# Altium schematic symbol library 封装库.SchLib: 194 symbols (part 2 of 3)
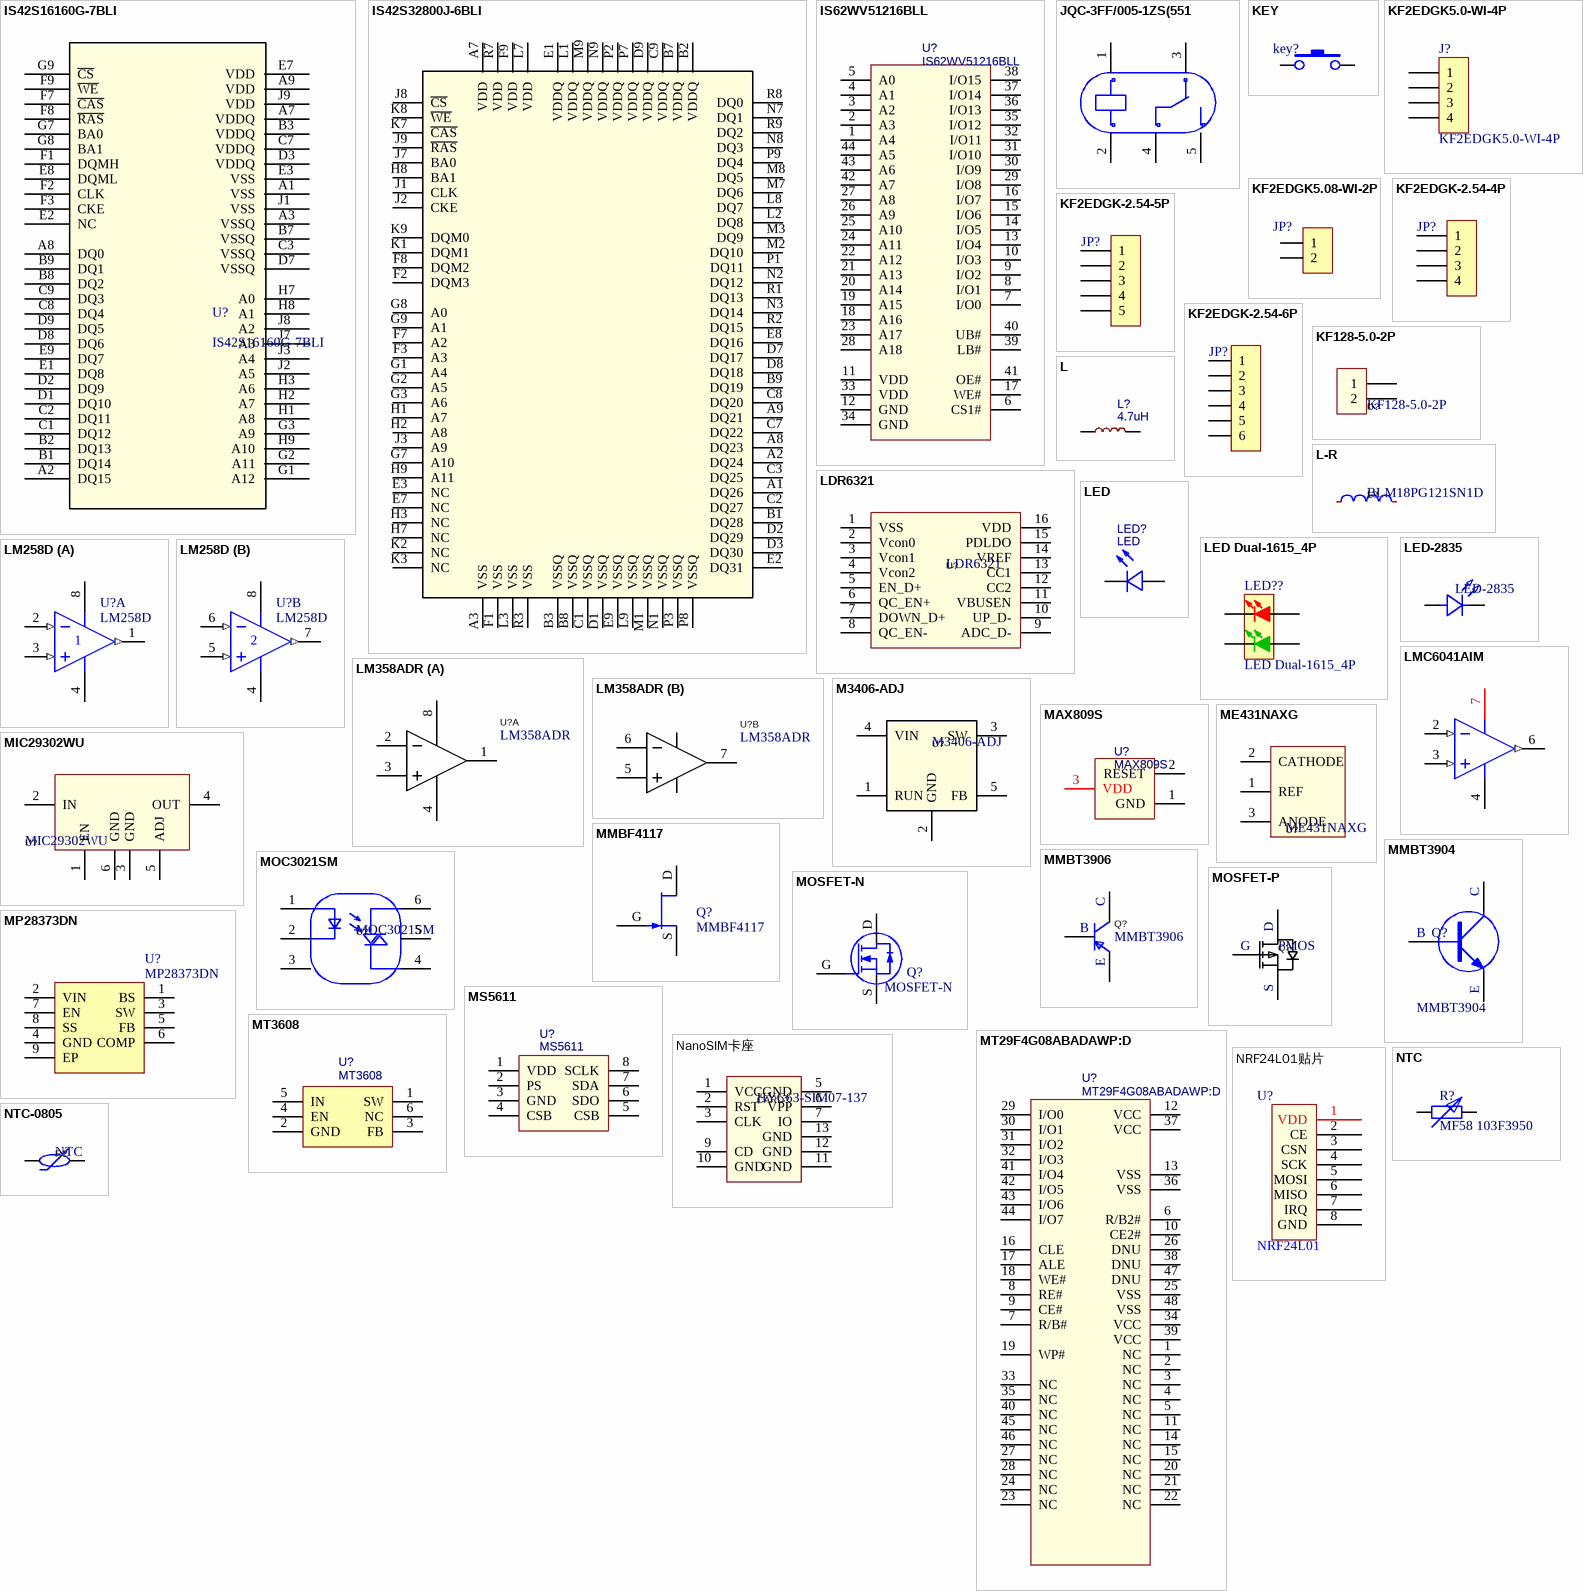
[diagram p14: symbols IS42S16160G-7BLI to NTC-0805]

## ME431NAXG
designator U?
电压基准芯片; Manufacturer: MICRONE(南京微盟); Add into BOM: yes; Symbol: ME431NAXG; Device: ME431NAXG; LCSC Part Name: ME431NAXG; Supplier Part: C427585; Manufacturer Part: ME431NAXG; Supplier Footprint: SOT-23; JLCPCB Part Class: Extended Part; Datasheet: https://atta.szlcsc.com/upload/public/pdf/source/20210812/77A2680EAEE2BD3F215F0BDBA8F6FF99.pdf; Supplier: LCSC; Convert to PCB: yes
footprint ME431AXG
pins: 1 REF, 2 CATHODE, 3 ANODE

## MIC29302WU
designator U?
Manufacturer: UMW(友台半导体); Symbol: MIC29302WU_C2995533; Add into BOM: yes; Name: MIC29302WU; Device: MIC29302WU; LCSC Part Name: 3A Fast-Response LDO Regulator; Supplier Part: C2995533; Manufacturer Part: MIC29302WU; Supplier Footprint: TO-263; JLCPCB Part Class: Extended Part; Datasheet: https://atta.szlcsc.com/upload/public/pdf/source/20220414/64A379364ACD2069C59BD188E91B8798.pdf; Supplier: LCSC; Convert to PCB: yes
footprint MIC29302WU
pins: 1 EN, 2 IN, 3 GND, 4 OUT, 5 ADJ, 6 GND

## MMBF4117
designator Q?
N-Channel JFET; Published: 8-Jun-2000; LatestRevisionDate: 17-Jul-2002; LatestRevisionNote: Re-released for DXP Platform.; PackageReference: TO-254-AA; Publisher: Altium Limited; Code_JEDEC: TO-254-AA
footprint MMBF4117- SOT-23
pins: 1 S, 2 D, 3 G

## MMBT3904
designator Q?
footprint MMBT3904
pins: 1 B, 2 E, 3 C

## MMBT3906
designator Q?
footprint MMBT3906-SOT-23
pins: 1 B, 2 E, 3 C

## MOC3021SM
designator U?
UMW MOC3021SM; Symbol: MOC3021SM_C3014298; Designer: U?; Device: MOC3021SM_C3014298
footprint MOC3021SM
pins: 1 AN, 2 CAT, 3 NC, 4 TERMINAL, 5 SUBSTRATE, 6 TERMINAL

## MOSFET-N
designator Q?
N-Channel MOSFET; Published: 8-Jun-2000; LatestRevisionDate: 17-Jul-2002; LatestRevisionNote: Re-released for DXP Platform.; PackageVersion: 1995/1996; PackageReference: E3; Publisher: Altium Limited
footprint MOSFET-N
pins: D, G, S

## MOSFET-P
designator Q?, comment PMOS
Manufacturer: DIODES(美台); Name: DMP4015SK3-13; Add into BOM: yes; Type: P沟道; Drain Source Voltage (Vdss): 40V; Continuous Drain Current (Id): 14A; Power Dissipation (Pd): 3.5W; Drain Source On Resistance (RDS(on)@Vgs,Id): 11mΩ@10V,9.8A; Gate Threshold Voltage (Vgs(th)@Id): 2.5V@250uA; Total Gate Charge (Qg@Vgs): 47.5nC@5V; Input Capacitance (Ciss@Vds): 4.234nF@20V; Symbol: DMP4015SK3-13; Device: DMP4015SK3-13; LCSC Part Name: P沟道 耐压:40V 电流:14A; Supplier Part: C513222; Manufacturer Part: DMP4015SK3-13; Supplier Footprint: TO-252; JLCPCB Part Class: Extended Part; Datasheet: https://atta.szlcsc.com/upload/public/pdf/source/20200421/C513222_5861831A60C6638F66EF28C3DABB6FAF.pdf; Supplier: LCSC; Convert to PCB: yes; Operating Temperature: -55℃~+150℃@(Tj)
footprint MOSFET-P
pins: 1 G, 2 D, 3 S

## MP28373DN
designator U?
VIN:0~28V,VOUT:ADJ,3A
footprint MP28373dn (SOIC, 8-Leads, Body 4.90x3.90mm, Pitch 1.27mm, Thermal Pad 3.45x2.56mm, IPC Low Density)
pins: 1 BS, 2 VIN, 3 SW, 4 GND, 5 FB, 6 COMP, 7 EN, 8 SS, 9 EP

## MS5611
designator U?
BOM_Manufacturer: 华宇创; BOM_Manufacturer Part: 2343U-205CNG1MNT01; Contributor: LCSC; BOM_Supplier: LCSC; BOM_Supplier Part: C350283; BOM_JLCPCB Part Class: Extended Part; spicePre: U; spiceSymbolName: 2343U-205CNG1MNT01
footprint MS5611
pins: 1 VDD, 2 PS, 3 GND, 4 CSB, 5 CSB, 6 SDO, 7 SDA, 8 SCLK

## MT29F4G08ABADAWP:D
designator U?
BOM_Manufacturer: Micron Tech; Contributor: LCSC; BOM_Supplier: LCSC; BOM_Supplier Part: C78135; BOM_Manufacturer Part: MT29F4G08ABADAWP:D; BOM_JLCPCB Part Class: Extended Part; spicePre: U; spiceSymbolName: MT29F4G08ABADAWP:D
footprint MT29F4G08ABADAWP:D
pins: 1 NC, 2 NC, 3 NC, 4 NC, 5 NC, 6 R/B2#, 7 R/B#, 8 RE#, 9 CE#, 10 CE2#, 11 NC, 12 VCC, 13 VSS, 14 NC, 15 NC, 16 CLE, 17 ALE, 18 WE#, 19 WP#, 20 NC, 21 NC, 22 NC, 23 NC, 24 NC, 25 VSS, 26 DNU, 27 NC, 28 NC, 29 I/O0, 30 I/O1, 31 I/O2, 32 I/O3, 33 NC, 34 VCC, 35 NC, 36 VSS, 37 VCC, 38 DNU, 39 VCC, 40 NC, 41 I/O4, 42 I/O5, 43 I/O6, 44 I/O7, 45 NC, 46 NC, 47 DNU, 48 VSS

## MT3608
designator U?
BOM_Manufacturer: AEROSEMI; BOM_Supplier: LCSC; BOM_Manufacturer Part: MT3608; BOM_Supplier Part: C84817; BOM_JLCPCB Part Class: Extended Part; spicePre: U; spiceSymbolName: MT3608
footprint SOT-23-6 (SOT-23, 6-Leads, Body 2.90x1.60mm, Pitch 0.95mm, IPC High Density)
pins: 1 SW, 2 GND, 3 FB, 4 EN, 5 IN, 6 NC

## NanoSIM卡座
designator CARD?, comment HYC63-SIM07-137
自弹式 NanoSIM卡 卡座 带CD PIN 带柱; Manufacturer: 华宇创; Add into BOM: yes; Body Height (Max): 1.25mm; Name: HYC63-SIM07-137; Symbol: HYC63-SIM07-137; Device: HYC63-SIM07-137; LCSC Part Name: 自弹式 NanoSIM卡 卡座 带CD PIN 带柱; Supplier Part: C645507; Manufacturer Part: HYC63-SIM07-137; Supplier Footprint: SMD; JLCPCB Part Class: Extended Part; Datasheet: https://atta.szlcsc.com/upload/public/pdf/source/20200616/C645507_89E3671A4105357B007331596DCB72F5.pdf; Supplier: LCSC; Convert to PCB: yes; Card Connection Mode: 自弹式; Card Type: NanoSIM卡; Connector Type: 卡座; Contact Material: -; Contact Plating: -; Operating Temperature Range: -20℃~+60℃
footprint NANO-SIM-SMD_HYC63-SIM07-137
pins: 1 VCC, 2 RST, 3 CLK, 5 GND, 6 VPP, 7 IO, 9 CD, 10 GND, 11 GND, 12 GND, 13 GND

## NRF24L01贴片
designator U?, comment NRF24L01
footprint NRF24L01贴片_飞机用
pins: 1 VDD, 2 CE, 3 CSN, 4 SCK, 5 MOSI, 6 MISO, 7 IRQ, 8 GND

## NTC
designator R?, comment MF58 103F3950
阻值(25℃)：10kΩ 电阻精度：±1% B值精度：±1% B值(25℃/50℃)：3950K 功率：50mW 工作温度：-55℃~+250℃ 玻壳测温型; BOM名称: 贴片电阻; 联系卖家，免费查找封装: 唯一出售店铺网址https://shop463601444.taobao.com
footprint 1206-R
footprint 2512-R (1W贴片电阻)
pins: 1, 2

## NTC-0805
designator R?, comment NTC
阻值(25℃)：10kΩ 电阻精度：±1% B值精度：±1% B值(25℃/50℃)：3950K 功率：200mW 最大稳态电流(25℃)：440uA 工作温度：-55℃~+125℃
footprint 0805-R
pins: 1, 2

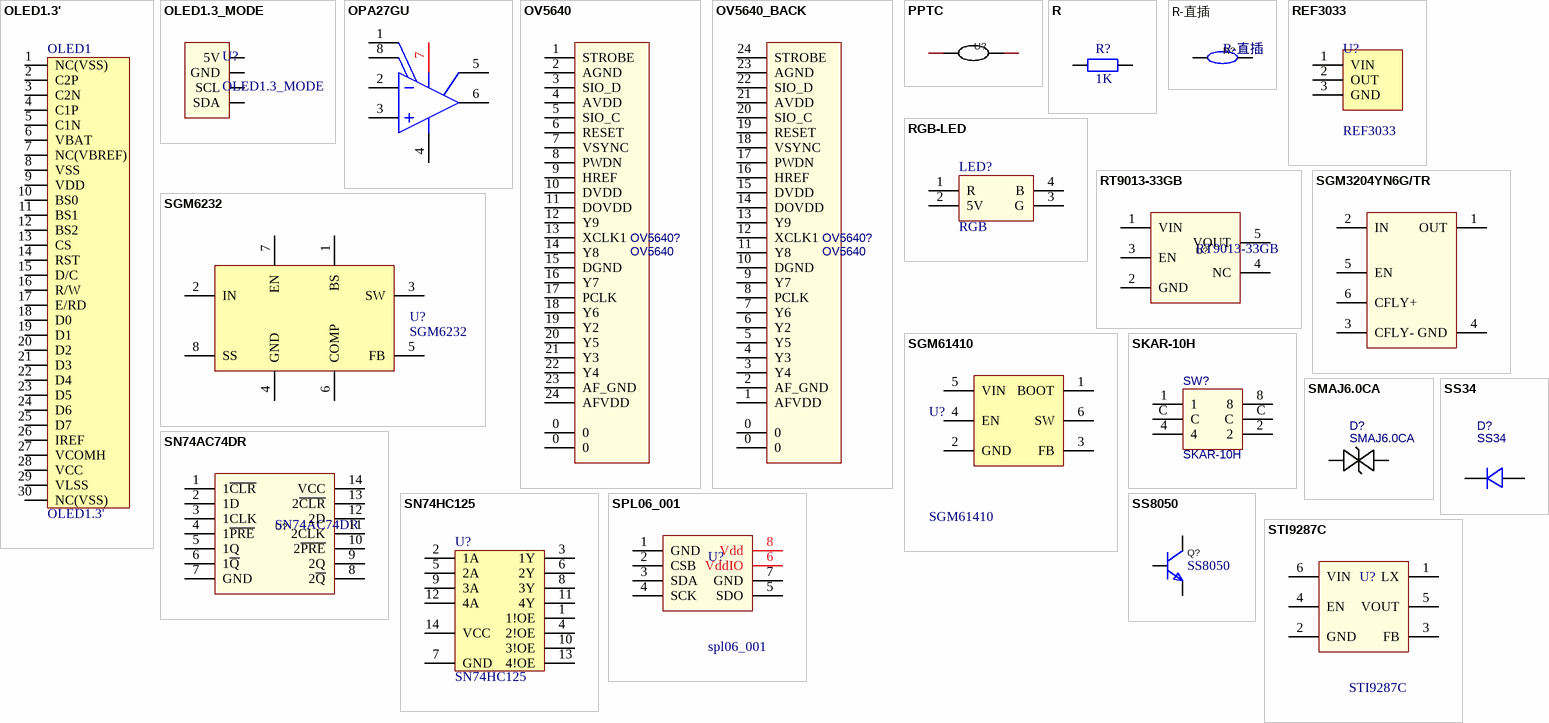
[diagram p5: symbols OLED1.3' to STI9287C]

## OLED1.3'
designator OLED1
footprint OLED_1.3
pins: 1 NC(VSS), 2 C2P, 3 C2N, 4 C1P, 5 C1N, 6 VBAT, 7 NC(VBREF), 8 VSS, 9 VDD, 10 BS0, 11 BS1, 12 BS2, 13 CS, 14 RST, 15 D/C, 16 R/W, 17 E/RD, 18 D0, 19 D1, 20 D2, 21 D3, 22 D4, 23 D5, 24 D6, 25 D7, 26 IREF, 27 VCOMH, 28 VCC, 29 VLSS, 30 NC(VSS)

## OLED1.3_MODE
designator U?
footprint OLED1.3_MODE
pins: 1 5V, 2 GND, 3 SCL, 4 SDA

## OPA27GU
designator U?  (value not drawn)
Manufacturer: TI(德州仪器); Add into BOM: yes; Name: OPA27GU; Symbol: OPA27GU; Device: OPA27GU; LCSC Part Name: OPA27GU; Supplier Part: C1346121; Manufacturer Part: OPA27GU; Supplier Footprint: SOIC-8; JLCPCB Part Class: Extended Part; Datasheet: https://atta.szlcsc.com/upload/public/pdf/source/20230221/3F966B5751EE9C205D67DE3328BF38DF.pdf; Supplier: LCSC; Convert to PCB: yes
footprint OPA27GU-SOP-8 (SOIC, 8-Leads, Body 4.91x3.90mm, Pitch 1.27mm, IPC Medium Density)
pins: 1 Offset Trim, 2 IN-, 3 IN+, 4 -VCC, 5 NC, 6 OUT, 7 +VCC, 8 Offset Trim

## OV5640
designator OV5640?
BOM_Manufacturer: Shenzhen Cankemeng; Contributor: LCSC; BOM_Supplier: LCSC; BOM_Supplier Part: C132514; BOM_Manufacturer Part: -; BOM_JLCPCB Part Class: Extended Part; spicePre: F; spiceSymbolName: FPC0.5-24P
footprint FPC-SMD_P0.50-24P_XJ-FGS
pins: 0, 0, 1 STROBE, 2 AGND, 3 SIO_D, 4 AVDD, 5 SIO_C, 6 RESET, 7 VSYNC, 8 PWDN, 9 HREF, 10 DVDD, 11 DOVDD, 12 Y9, 13 XCLK1, 14 Y8, 15 DGND, 16 Y7, 17 PCLK, 18 Y6, 19 Y2, 20 Y5, 21 Y3, 22 Y4, 23 AF_GND, 24 AFVDD

## OV5640_BACK
designator OV5640?, comment OV5640
BOM_Manufacturer: Shenzhen Cankemeng; Contributor: LCSC; BOM_Supplier: LCSC; BOM_Supplier Part: C132514; BOM_Manufacturer Part: -; BOM_JLCPCB Part Class: Extended Part; spicePre: F; spiceSymbolName: FPC0.5-24P
footprint FPC-SMD_P0.50-24P_XJ-FGS
pins: 0, 0, 1 AFVDD, 2 AF_GND, 3 Y4, 4 Y3, 5 Y5, 6 Y2, 7 Y6, 8 PCLK, 9 Y7, 10 DGND, 11 Y8, 12 XCLK1, 13 Y9, 14 DOVDD, 15 DVDD, 16 HREF, 17 PWDN, 18 VSYNC, 19 RESET, 20 SIO_C, 21 AVDD, 22 SIO_D, 23 AGND, 24 STROBE

## PPTC
designator U?  (value not drawn)
Manufacturer: BOURNS; Name: MF-LSMF260X-2; Add into BOM: yes; Operating Voltage (Max): 24V; Current Rating (Max): 20A; Hold Current: 2.6A; Trip Current: 5.2A; Resistance - Initial (Ri) (Min): 75mΩ; Resistance - Post Trip (R1) (Max): 20mΩ; Maximum Time to Trip: 5s; Symbol: MF-LSMF260X-2; Device: MF-LSMF260X-2; LCSC Part Name: MF-LSMF260X-2; Supplier Part: C913192; Manufacturer Part: MF-LSMF260X-2; Supplier Footprint: SMD2920; JLCPCB Part Class: Extended Part; Supplier: LCSC; Convert to PCB: yes; Operating Temperature: -40℃~+85℃
footprint F2920
pins: 1, 2

## R
designator R?, comment 1K
贴片电阻; 联系卖家，免费查找封装: 唯一出售店铺网址https://shop463601444.taobao.com; BOM名称: 贴片电阻
footprint 0603-R
footprint 0805-R
footprint 1206-R
footprint 2512-R (1W贴片电阻)
footprint 0402-R (Chip Resistor, 2-Leads, Body 1.00x0.50mm, IPC Medium Density)
pins: 1, 2

## R-直插
designator R?
Symbol: MFR1WSFTE52-1K; Designer: U?; Device: MFR1WSFTE52-1K
footprint R-直插
pins: 1, 2

## REF3033
designator U?
footprint REF3033
pins: 1 VIN, 2 OUT, 3 GND

## RGB-LED
designator LED?, comment RGB
footprint RGB-LED
pins: 1 R, 2 5V, 3 G, 4 B

## RT9013-33GB
designator U?
Manufacturer: RICHTEK(立锜); Add into BOM: yes; Output Type: 固定; Output Polarity: 正; Number of Outputs: 1; Maximum Input Voltage: 5.5V; Output Voltage: 3.3V; Dropout Voltage: 400mV@(500mA); Quiescent Current (Ground Current): 50uA; Output Current: 500mA; Power Supply Rejection Ratio (PSRR): 50dB@(10kHz); Name: RT9013-33GB; Symbol: RT9013-33GB; Device: RT9013-33GB; LCSC Part Name: 输入5.5V 输出3.3V 500mA; Supplier Part: C47773; Manufacturer Part: RT9013-33GB; Supplier Footprint: SOT-23-5; JLCPCB Part Class: Extended Part; Datasheet: https://atta.szlcsc.com/upload/public/pdf/source/20150504/1457707282459.pdf; Supplier: LCSC; Convert to PCB: yes; Noise: -; Feature: -; Operating Temperature: -40℃~+85℃
footprint RT9013-33GB-SOT-23-5 (SOT23, 5-Leads, Body 2.9x1.6mm, Pitch 0.95mm, IPC Medium Density)
pins: 1 VIN, 2 GND, 3 EN, 4 NC, 5 VOUT

## SGM3204YN6G/TR
designator U?  (value not drawn)
Manufacturer: SGMICRO(圣邦微); Add into BOM: yes; Voltage - Output (Min/Fixed): -1.4V; Voltage - Output (Max): -5.5V; Current - Output: Up to 200mA; Frequency - Switching: 950kHz; Output Type: Adjustable; Voltage - Input (Min): 1.4V; Voltage - Input (Max): 5.5V; Function: Charge Pump; Output Configuration: Negative; Name: SGM3204YN6G/TR; Symbol: SGM3204YN6G/TR; Device: SGM3204YN6G/TR; LCSC Part Name: SGM3204YN6G/TR; Supplier Part: C194031; Manufacturer Part: SGM3204YN6G/TR; Supplier Footprint: SOT-23-6; JLCPCB Part Class: Extended Part; Datasheet: https://atta.szlcsc.com/upload/public/pdf/source/20180627/C194031_755051E53122D645C36CF727711B963E.pdf; Supplier: LCSC; Convert to PCB: yes
footprint SOT-23-6 (SOT-23, 6-Leads, Body 2.90x1.60mm, Pitch 0.95mm, IPC High Density)
pins: 1 OUT, 2 IN, 3 CFLY-, 4 GND, 5 EN, 6 CFLY+

## SGM6232
designator U?
3A, 28V, 340KHz Synchronous Rectified  Step-Down Converter
footprint SGM6232-SOP-8
pins: 1 BS, 2 IN (power), 3 SW (power), 4 GND (power), 5 FB, 6 COMP, 7 EN, 8 SS

## SGM61410
designator U?
1.2MHz, 600mA, 5-42V 同步整流降压转换器
footprint SGM61410-SOT-23-6 (SOT-23, 6-Leads, Body 2.90x1.60mm, Pitch 0.95mm, IPC High Density)
pins: 1 BOOT, 2 GND (power), 3 FB, 4 EN, 5 VIN (power), 6 SW

## SKAR-10H
designator SW?
旋转编码器; BOM_Manufacturer: 台湾圜达; BOM_Manufacturer Part: RV3AF-16R-V-B; Contributor: LCSC; BOM_Supplier: LCSC; BOM_Supplier Part: C501587; BOM_JLCPCB Part Class: Extended Part; spicePre: S; spiceSymbolName: RV3AF-16R-V-B-C501587
footprint SW-TH_SKAR-10H
pins: 1, 2, 4, 8, C, C

## SMAJ6.0CA
designator D?
SMAJ6.0CA_C698928; BOM_Manufacturer: Yangzhou Yangjie Elec Tech; Contributor: LCSC; BOM_Supplier: LCSC; BOM_Supplier Part: C698928; BOM_Manufacturer Part: SMAJ6.0CA; BOM_JLCPCB Part Class: Extended Part; spicePre: D; spiceSymbolName: SMAJ6.0CA_C698928
footprint ZENER
pins: 1 C, 2 A

## SN74AC74DR
designator U?
Manufacturer: TI(德州仪器); Add into BOM: yes; Number of Channels: 1; Function: 置位和复位; Output Type: 互补型; Clock Frequency: 160MHz; Trigger Type: 上升沿; Maximum Propagation Delay: 6ns@5V,50pF; Sink Current: 24mA; Supply Voltage: 2V~6V; Quiescent Current (Iq): 2uA; Input Capacitance: 3pF; Name: SN74AC74DR; Symbol: SN74AC74DR; Device: SN74AC74DR; LCSC Part Name: IC FF D-TYPE DUAL 1BIT; Supplier Part: C352945; Manufacturer Part: SN74AC74DR; Supplier Footprint: SOIC-14; JLCPCB Part Class: Extended Part; Datasheet: https://atta.szlcsc.com/upload/public/pdf/source/20230221/9FBE165348E9AEEC24AE095F853C1B59.pdf; Supplier: LCSC; Convert to PCB: yes; Series: 74AC; Type: D-型; Source Current: 24mA; Operating Temperature: -40℃~+85℃
footprint SN74AC74DR-SOIC-14
pins: 1 1~{CLR}, 2 1D, 3 1CLK, 4 1~{PRE}, 5 1Q, 6 1~{Q}, 7 GND, 8 2~{Q}, 9 2Q, 10 2~{PRE}, 11 2CLK, 12 2D, 13 2~{CLR}, 14 VCC

## SN74HC125
designator U?
Type: *
footprint TSSOP_E170_P0.65_14
pins: 1 1!OE, 2 1A, 3 1Y, 4 2!OE, 5 2A, 6 2Y, 7 GND, 8 3Y, 9 3A, 10 3!OE, 11 4Y, 12 4A, 13 4!OE, 14 VCC

## SPL06_001
designator U?, comment spl06_001
气压计
footprint SPL06
pins: 1 GND, 2 CSB, 3 SDA, 4 SCK, 5 SDO, 6 VddIO, 7 GND, 8 Vdd

## SS34
designator D?
BOM_Manufacturer: Wuxi ARK Tech Elec; BOM_Manufacturer Part: D-G060306G1-KS2; Contributor: LCSC; BOM_Supplier: LCSC; BOM_Supplier Part: C118334; BOM_JLCPCB Part Class: Extended Part; spicePre: L; spiceSymbolName: D-G060306G1-KS2
footprint SS34-SMA
footprint SS34-SMF
footprint SS34-SOD123 (2.7x1.6X1.1mm（长宽高，不包括引脚） 淘宝ID:黄晶宝石)
pins: 1 +, 2 -

## SS8050
designator Q?
footprint SOT23-3M (SOT23, 3-Leads, Body 2.9x1.3mm, Pitch 0.95mm, Lead Span 2.4mm, IPC Low Density)
pins: 1 B, 2 E, 3 C

## STI9287C
designator U?
PCB Footprint: SOT23-6
footprint SOT-23-6 (SOT-23, 6-Leads, Body 2.90x1.60mm, Pitch 0.95mm, IPC High Density)
pins: 1 LX, 2 GND, 3 FB, 4 EN, 5 VOUT, 6 VIN

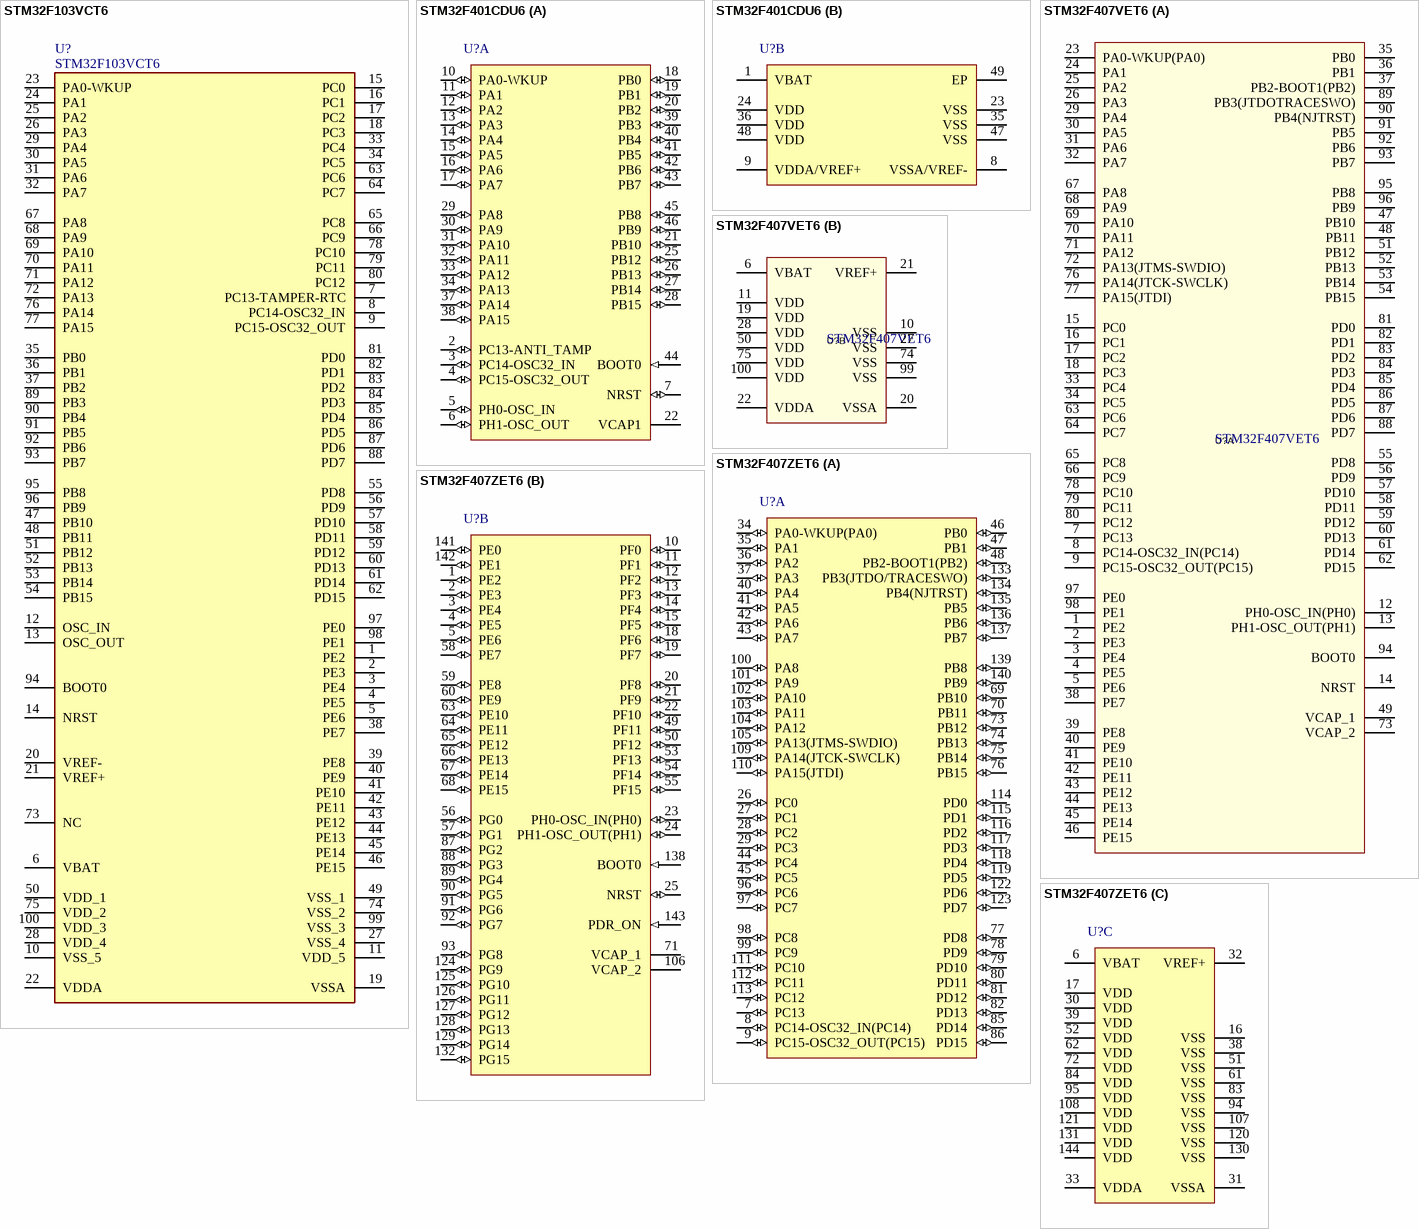
[diagram p6: symbols STM32F103VCT6 to STM32F407ZET6]

## STM32F103VCT6
designator U?
STM32F103VCT6, 32 bit ARM Cortex M3 Microcontroller 72MHz 256 kB Flash, 48 kB RAM, USB CAN I2C 100-Pin LQFP; Manufacturer_Name: STMicroelectronics; Geometry.Height: 1.6mm; Manufacturer_Part_Number: STM32F103VCT6; Mouser Part Number: 511-STM32F103VCT6; Mouser Price/Stock: https://www.mouser.co.uk/ProductDetail/STMicroelectronics/STM32F103VCT6?qs=%252BB84zevwoRDW1rpMEiZMCg%3D%3D; Arrow Part Number: STM32F103VCT6; Arrow Price/Stock: https://www.arrow.com/en/products/stm32f103vct6/stmicroelectronics?region=nac; Datasheet Link: https://www.st.com/resource/en/datasheet/stm32f103rc.pdf
footprint STM32F103VCT6
pins: 1 PE2, 2 PE3, 3 PE4, 4 PE5, 5 PE6, 6 VBAT, 7 PC13-TAMPER-RTC, 8 PC14-OSC32_IN, 9 PC15-OSC32_OUT, 10 VSS_5, 11 VDD_5, 12 OSC_IN, 13 OSC_OUT, 14 NRST, 15 PC0, 16 PC1, 17 PC2, 18 PC3, 19 VSSA, 20 VREF-, 21 VREF+, 22 VDDA, 23 PA0-WKUP, 24 PA1, 25 PA2, 26 PA3, 27 VSS_4, 28 VDD_4, 29 PA4, 30 PA5, 31 PA6, 32 PA7, 33 PC4, 34 PC5, 35 PB0, 36 PB1, 37 PB2, 38 PE7, 39 PE8, 40 PE9, 41 PE10, 42 PE11, 43 PE12, 44 PE13, 45 PE14, 46 PE15, 47 PB10, 48 PB11, 49 VSS_1, 50 VDD_1, 51 PB12, 52 PB13, 53 PB14, 54 PB15, 55 PD8, 56 PD9, 57 PD10, 58 PD11, 59 PD12, 60 PD13, 61 PD14, 62 PD15, 63 PC6, 64 PC7, 65 PC8, 66 PC9, 67 PA8, 68 PA9, 69 PA10, 70 PA11, 71 PA12, 72 PA13, 73 NC, 74 VSS_2, 75 VDD_2, 76 PA14, 77 PA15, 78 PC10, 79 PC11, 80 PC12, 81 PD0, 82 PD1, 83 PD2, 84 PD3, 85 PD4, 86 PD5, 87 PD6, 88 PD7, 89 PB3, 90 PB4, 91 PB5, 92 PB6, 93 PB7, 94 BOOT0, 95 PB8, 96 PB9, 97 PE0, 98 PE1, 99 VSS_3, 100 VDD_3

## STM32F401CDU6
designator U?
ARM Cortex-M4 32-bit MCU+FPU, 105 DMIPS, 256 kB Flash, 64 kB Internal RAM, 36 I/Os, 48-pin UFQFPN, -40 to 85 degC, Tray; Manufacturer: STMicroelectronics; PartNumber: STM32F401CCU6; FLASH Size (Prog) (kB): 256; I/Os (High Current): 36; Internal RAM Size (kB): 64; Operating Frequency(F) (Processor speed) (MHz): 84; Supply Voltage(Vcc) max (V): 3.6; Supply Voltage(Vcc) min (V): 1.8; DatasheetVersion: Rev. 1; PackageVersion: Rev. 1, 04/2013; PackageReference: UFQFPN48; PackageDescription: 48-Pin Ultra Thin Fine Pitch Quad Flat No-Lead, 7 x 7 x 0.6 mm Body, 0.5 mm Pitch, Exposed Pad; Supplier 1: Newark; Supplier Part Number 1: 19X6217; Supplier 2: Mouser; Supplier Part Number 2: 511-STM32F401CCU6; Core: ARM Cortex-M4; Packing: Tray; Mounting Technology: Surface Mount; ComponentLink1Description: Manufacturer URL; ComponentLink1URL: http://www.st.com/web/en/home.html; ComponentLink2Description: Datasheet; ComponentLink2URL: http://www.st.com/st-web-ui/static/active/en/resource/technical/document/data_brief/DM00071938.pdf; ComponentLink3Description: Package Specification; ComponentLink3URL: http://www.st.com/st-web-ui/static/active/en/resource/technical/document/data_brief/DM00071938.pdf
footprint STM32F401CDU6 (QFN, 48-Leads, Body 7.1x7.1mm, Pitch 0.5mm, Thermal Pad 5.6x5.6mm, IPC Medium Density)
part A pins: 2 PC13-ANTI_TAMP (io) "PC13-ANTI_TAMP/TAMP_1", 3 PC14-OSC32_IN (io) "PC14-OSC32_IN/OSC32_IN", 4 PC15-OSC32_OUT (io) "PC15-OSC32_OUT/OSC32_OUT", 5 PH0-OSC_IN (io) "PH0-OSC_IN/OSC_IN", 6 PH1-OSC_OUT (io) "PH1-OSC_OUT/OSC_OUT", 7 NRST (io), 10 PA0-WKUP (io) "PA0-WKUP/USART2_CTS,TIM2_CH1/TIM2_ETR,TIM5_CH1/ADC1_0,WKUP", 11 PA1 (io) "PA1/USART2_RTS,TIM2_CH2,TIM5_CH2/ADC1_1", 12 PA2 (io) "PA2/USART2_TX,TIM2_CH3,TIM5_CH3,TIM9_CH1/ADC1_2", 13 PA3 (io) "PA3/USART2_RX,TIM2_CH4,TIM5_CH4,TIM9_CH2/ADC1_3", 14 PA4 (io) "PA4/SPI1_NSS,SPI3_NSS/I2S3_WS,USART2_CK/ADC1_4", 15 PA5 (io) "PA5/SPI1_SCK,TIM2_CH1/TIM2_ETR/ADC1_5", 16 PA6 (io) "PA6/SPI1_MISO,TIM1_BKIN,TIM3_CH1/ADC1_6", 17 PA7 (io) "PA7/SPI1_MOSI,TIM1_CH1N,TIM3_CH2/ADC1_7", 18 PB0 (io) "PB0/TIM1_CH2N,TIM3_CH3/ADC1_8", 19 PB1 (io) "PB1/TIM1_CH3N,TIM3_CH4/ADC1_9", 20 PB2 (io), 21 PB10 (io) "PB10/SPI2_SCK/I2S2_CK,I2C2_SCL,TIM2_CH3", 22 VCAP1 (power), 25 PB12 (io) "PB12/SPI2_NSS/I2S2_WS,I2C2_SMBAL,TIM1_BKIN", 26 PB13 (io) "PB13/SPI2_SCK/I2S2_CK,TIM1_CH1N", 27 PB14 (io) "PB14/SPI2_MISO,I2S2ext_SD,TIM1_CH2N", 28 PB15 (io) "PB15/SPI2_MOSI/I2S2_SD,TIM1_CH3N,RTC_50Hz", 29 PA8 (io) "PA8/I2C3_SCL,USART1_CK,TIM1_CH1,USB_FS_SOF,MCO_1", 30 PA9 (io) "PA9/I2C3_SMBAL,USART1_TX,TIM1_CH2,USB_FS_VBUS", 31 PA10 (io) "PA10/USART1_RX,TIM1_CH3,USB_FS_ID", 32 PA11 (io) "PA11/USART1_CTS,USART6_TX,TIM1_CH4,USB_FS_DM", 33 PA12 (io) "PA12/USART1_RTS,USART6_RX,TIM1_ETR,USB_FS_DP", 34 PA13 (io) "PA13/JTMS-SWDIO", 37 PA14 (io) "PA14/JTCK-SWCLK", 38 PA15 (io) "PA15/SPI1_NSS,SPI3_NSS/I2S3_WS,TIM2_CH1/TIM2_ETR,JTDI", 39 PB3 (io) "PB3/SPI1_SCK,SPI3_SCK/I2S3_CK,I2C2_SDA,TIM2_CH2,JTDO-SWO", 40 PB4 (io) "PB4/SPI1_MISO,SPI3_MISO,I2S3ext_SD,I2C3_SDA,TIM3_CH1,JTRST", 41 PB5 (io) "PB5/SPI1_MOSI,SPI3_MOSI/I2S3_SD,I2C1_SMBAL,TIM3_CH2", 42 PB6 (io) "PB6/I2C1_SCL,USART1_TX,TIM4_CH1", 43 PB7 (io) "PB7/I2C1_SDA,USART1_RX,TIM4_CH2", 44 BOOT0 (in), 45 PB8 (io) "PB8/I2C1_SCL,TIM4_CH3,TIM10_CH1,SDIO_D4", 46 PB9 (io) "PB9/SPI2_NSS/I2S2_WS,I2C1_SDA,TIM4_CH4,TIM11_CH1,SDIO_D5"
part B pins: 1 VBAT (power), 8 VSSA/VREF- (power), 9 VDDA/VREF+ (power), 23 VSS (power), 24 VDD (power), 35 VSS (power), 36 VDD (power), 47 VSS (power), 48 VDD (power), 49 EP (power)

## STM32F407VET6
designator U?
Manufacturer: ST(意法半导体); Add into BOM: yes; CPU Core: ARM Cortex-M4; CPU Maximum Speed: 168MHz; Operating Voltage Range: 1.8V~3.6V; Program Storage Size: 512KB; Program Memory Type: FLASH; RAM Size: 192KB; GPIO Ports Number: 82; ADC (Bit): 12bit; Universal Serial Bus: 有; Peripheral/Function: DMA；LCD/LED驱动；PWM; tags: STM32; Name: STM32F407VET6; Symbol: STM32F407VET6; Device: STM32F407VET6; LCSC Part Name: STM32F407VET6; Supplier Part: C28730; Manufacturer Part: STM32F407VET6; Supplier Footprint: LQFP-100(14x14); JLCPCB Part Class: Extended Part; Datasheet: https://atta.szlcsc.com/upload/public/pdf/source/20140801/1457707197138.pdf; Supplier: LCSC; Convert to PCB: yes; EEPROM: -; DAC (Bit): 12bit; PWM (Bit): -; Internal Comparator: -; communication protocol: -; Watchdog: 有; Real-Time Clock: -; Infrared Data Association: 有; Low-Voltage Detect: 有; CCP Capture/Compare: -; LCD Module: 有; Secure Digital Input and Output: -; Direct Memory Access: 有; Internal Oscillator: 有; Operating Temperature Range: -40℃~+85℃; image: http://image.lceda.cn/szlcsc/C28730.jpg
footprint STM32F407VET6
part A pins: 1 PE2, 2 PE3, 3 PE4, 4 PE5, 5 PE6, 7 PC13, 8 PC14-OSC32_IN(PC14), 9 PC15-OSC32_OUT(PC15), 12 PH0-OSC_IN(PH0), 13 PH1-OSC_OUT(PH1), 14 NRST, 15 PC0, 16 PC1, 17 PC2, 18 PC3, 23 PA0-WKUP(PA0), 24 PA1, 25 PA2, 26 PA3, 29 PA4, 30 PA5, 31 PA6, 32 PA7, 33 PC4, 34 PC5, 35 PB0, 36 PB1, 37 PB2-BOOT1(PB2), 38 PE7, 39 PE8, 40 PE9, 41 PE10, 42 PE11, 43 PE12, 44 PE13, 45 PE14, 46 PE15, 47 PB10, 48 PB11, 49 VCAP_1, 51 PB12, 52 PB13, 53 PB14, 54 PB15, 55 PD8, 56 PD9, 57 PD10, 58 PD11, 59 PD12, 60 PD13, 61 PD14, 62 PD15, 63 PC6, 64 PC7, 65 PC8, 66 PC9, 67 PA8, 68 PA9, 69 PA10, 70 PA11, 71 PA12, 72 PA13(JTMS-SWDIO), 73 VCAP_2, 76 PA14(JTCK-SWCLK), 77 PA15(JTDI), 78 PC10, 79 PC11, 80 PC12, 81 PD0, 82 PD1, 83 PD2, 84 PD3, 85 PD4, 86 PD5, 87 PD6, 88 PD7, 89 PB3(JTDOTRACESWO), 90 PB4(NJTRST), 91 PB5, 92 PB6, 93 PB7, 94 BOOT0, 95 PB8, 96 PB9, 97 PE0, 98 PE1
part B pins: 6 VBAT, 10 VSS, 11 VDD, 19 VDD, 20 VSSA, 21 VREF+, 22 VDDA, 27 VSS, 28 VDD, 50 VDD, 74 VSS, 75 VDD, 99 VSS, 100 VDD

## STM32F407ZET6
designator U?
ARM Cortex-M4 32-bit MCU+FPU, 210 DMIPS, 512 kB Flash, 192 kB Internal RAM, 114 I/Os, 144-pin LQFP, -40 to 85 degC, Tray; Manufacturer: STMicroelectronics; PartNumber: STM32F407ZET6; D/A Converter: 2x12-bit; FLASH Size (Prog) (kB): 512; I/Os (High Current): 114; Internal RAM Size (kB): 192; Operating Frequency(F) (Processor speed) (MHz): 168; Supply Voltage(Vcc) max (V): 3.6; Supply Voltage(Vcc) min (V): 1.8; DatasheetVersion: Rev. 4; PackageVersion: Rev. 4, 06/2013; PackageReference: LQFP144; PackageDescription: 144-Pin Low Profile Quad Flat Package, 20 x 20 mm Body, 0.5 mm Pitch; Supplier 1: Digi-Key; Supplier Part Number 1: 497-11903-ND; Supplier 2: Farnell; Supplier Part Number 2: 2215229; Supplier 3: Newark; Supplier Part Number 3: 46W2203; Supplier 4: Newark; Supplier Part Number 4: 87T3795; Supplier 5: Mouser; Supplier Part Number 5: 511-STM32F407ZET6; Core: ARM Cortex-M4; Packing: Tray; Mounting Technology: Surface Mount; ComponentLink1Description: Manufacturer URL; ComponentLink1URL: http://www.st.com/web/en/home.html; ComponentLink2Description: Datasheet; ComponentLink2URL: http://www.st.com/st-web-ui/static/active/en/resource/technical/document/datasheet/DM00037051.pdf; ComponentLink3Description: Package Specification; ComponentLink3URL: http://www.st.com/st-web-ui/static/active/en/resource/technical/document/datasheet/DM00037051.pdf
footprint STM-LQFP144_N (Thin QFP, 144-Leads, Body 20x20mm, Pitch 0.5mm, IPC Medium Density)
part A pins: 7 PC13 (io) "PC13/EVENTOUT/RTC_OUT,RTC_TAMP1,RTC_TS", 8 PC14-OSC32_IN(PC14) (io) "PC14-OSC32_IN(PC14)/EVENTOUT/OSC32_IN", 9 PC15-OSC32_OUT(PC15) (io) "PC15-OSC32_OUT(PC15)/EVENTOUT/OSC32_OUT", 26 PC0 (io) "PC0/OTG_HS_ULPI_STP/EVENTOUT/ADC123_IN10", 27 PC1 (io) "PC1/ETH_MDC/EVENTOUT/ADC123_IN11", 28 PC2 (io) "PC2/SPI2_MISO/OTG_HS_ULPI_DIR/ETH_MII_TXD2/I2S2ext_SD/EVENTOUT/ADC123_IN12", 29 PC3 (io) "PC3/SPI2_MOSI/I2S2_SD/OTG_HS_ULPI_NXT/ETH_MII_TX_CLK/EVENTOUT/ADC123_IN13", 34 PA0-WKUP(PA0) (io) "PA0-WKUP(PA0)/USART2_CTS/UART4_TX/ETH_MII_CRS/TIM2_CH1_ETR/TIM5_CH1/TIM8_ETR/EVENTOUT/ADC123_IN0/WKUP", 35 PA1 (io) "PA1/USART2_RTS/UART4_RX/ETH_RMII_REF_CLK/ETH_MII_RX_CLK/TIM5_CH2/TIM2_CH2/EVENTOUT/ADC123_IN1", 36 PA2 (io) "PA2/USART2_TX/TIM5_CH3/TIM9_CH1/TIM2_CH3/ETH_MDIO/EVENTOUT/ADC123_IN2", 37 PA3 (io) "PA3/USART2_RX/TIM5_CH4/TIM9_CH2/TIM2_CH4/OTG_HS_ULPI_D0/ETH_MII_COL/EVENTOUT/ADC123_IN3", 40 PA4 (io) "PA4/SPI1_NSS/SPI3_NSS/USART2_CK/DCMI_HSYNC/OTG_HS_SOF/I2S3_WS/EVENTOUT/ADC12_IN4/DAC_OUT1", 41 PA5 (io) "PA5/SPI1_SCK/OTG_HS_ULPI_CK/TIM2_CH1_ETR/TIM8_CH1N/EVENTOUT/ADC12_IN5/DAC_OUT2", 42 PA6 (io) "PA6/SPI1_MISO/TIM8_BKIN/TIM13_CH1/DCMI_PIXCLK/TIM3_CH1/TIM1_BKIN/EVENTOUT/ADC12_IN6", 43 PA7 (io) "PA7/SPI1_MOSI/TIM8_CH1N/TIM14_CH1/TIM3_CH2/ETH_MII_RX_DV/TIM1_CH1N/ETH_RMII_CRS_DV/EVENTOUT/ADC12_IN7", 44 PC4 (io) "PC4/ETH_RMII_RX_D0/ETH_MII_RX_D0/EVENTOUT/ADC12_IN14", 45 PC5 (io) "PC5/ETH_RMII_RX_D1/ETH_MII_RX_D1/EVENTOUT/ADC12_IN15", 46 PB0 (io) "PB0/TIM3_CH3/TIM8_CH2N/OTG_HS_ULPI_D1/ETH_MII_RXD2/TIM1_CH2N/EVENTOUT/ADC12_IN8", 47 PB1 (io) "PB1/TIM3_CH4/TIM8_CH3N/OTG_HS_ULPI_D2/ETH_MII_RXD3/TIM1_CH3N/EVENTOUT/ADC12_IN9", 48 PB2-BOOT1(PB2) (io) "PB2-BOOT1(PB2)/EVENTOUT", 69 PB10 (io) "PB10/SPI2_SCK/I2S2_CK/I2C2_SCL/USART3_TX/OTG_HS_ULPI_D3/ETH_MII_RX_ER/TIM2_CH3/EVENTOUT", 70 PB11 (io) "PB11/I2C2_SDA/USART3_RX/OTG_HS_ULPI_D4/ETH_RMII_TX_EN/ETH_MII_TX_EN/TIM2_CH4/EVENTOUT", 73 PB12 (io) "PB12/SPI2_NSS/I2S2_WS/I2C2_SMBA/USART3_CK/TIM1_BKIN/CAN2_RX/OTG_HS_ULPI_D5/ETH_RMII_TXD0/ETH_MII_TXD0/OTG_HS_ID/EVENTOUT", 74 PB13 (io) "PB13/SPI2_SCK/I2S2_CK/USART3_CTS/TIM1_CH1N/CAN2_TX/OTG_HS_ULPI_D6/ETH_RMII_TXD1/ETH_MII_TXD1/EVENTOUT/OTG_HS_VBUS", 75 PB14 (io) "PB14/SPI2_MISO/TIM1_CH2N/TIM12_CH1/OTG_HS_DM/USART3_RTS/TIM8_CH2N/I2S2ext_SD/EVENTOUT", 76 PB15 (io) "PB15/SPI2_MOSI/I2S2_SD/TIM1_CH3N/TIM8_CH3N/TIM12_CH2/OTG_HS_DP/EVENTOUT/RTC_REFIN", 77 PD8 (io) "PD8/FSMC_D13/USART3_TX/EVENTOUT", 78 PD9 (io) "PD9/FSMC_D14/USART3_RX/EVENTOUT", 79 PD10 (io) "PD10/FSMC_D15/USART3_CK/EVENTOUT", 80 PD11 (io) "PD11/FSMC_CLE/FSMC_A16/USART3_CTS/EVENTOUT", 81 PD12 (io) "PD12/FSMC_ALE/FSMC_A17/TIM4_CH1/USART3_RTS/EVENTOUT", 82 PD13 (io) "PD13/FSMC_A18/TIM4_CH2/EVENTOUT", 85 PD14 (io) "PD14/FSMC_D0/TIM4_CH3/EVENTOUT", 86 PD15 (io) "PD15/FSMC_D1/TIM4_CH4/EVENTOUT", 96 PC6 (io) "PC6/I2S2_MCK/TIM8_CH1/SDIO_D6/USART6_TX/DCMI_D0/TIM3_CH1/EVENTOUT", 97 PC7 (io) "PC7/I2S3_MCK/TIM8_CH2/SDIO_D7/USART6_RX/DCMI_D1/TIM3_CH2/EVENTOUT", 98 PC8 (io) "PC8/TIM8_CH3/SDIO_D0/TIM3_CH3/USART6_CK/DCMI_D2/EVENTOUT", 99 PC9 (io) "PC9/I2S_CKIN/MCO2/TIM8_CH4/SDIO_D1/I2C3_SDA/DCMI_D3/TIM3_CH4/EVENTOUT", 100 PA8 (io) "PA8/MCO1/USART1_CK/TIM1_CH1/I2C3_SCL/OTG_FS_SOF/EVENTOUT", 101 PA9 (io) "PA9/USART1_TX/TIM1_CH2/I2C3_SMBA/DCMI_D0/EVENTOUT/OTG_FS_VBUS", 102 PA10 (io) "PA10/USART1_RX/TIM1_CH3/OTG_FS_ID/DCMI_D1/EVENTOUT", 103 PA11 (io) "PA11/USART1_CTS/CAN1_RX/TIM1_CH4/OTG_FS_DM/EVENTOUT", 104 PA12 (io) "PA12/USART1_RTS/CAN1_TX/TIM1_ETR/OTG_FS_DP/EVENTOUT", 105 PA13(JTMS-SWDIO) (io) "PA13(JTMS-SWDIO)/JTMS-SWDIO/EVENTOUT", 109 PA14(JTCK-SWCLK) (io) "PA14(JTCK-SWCLK)/JTCK-SWCLK/EVENTOUT", 110 PA15(JTDI) (io) "PA15(JTDI)/JTDI/SPI3_NSS/I2S3_WS/TIM2_CH1_ETR/SPI1_NSS/EVENTOUT", 111 PC10 (io) "PC10/SPI3_SCK/I2S3_CK/UART4_TX/SDIO_D2/DCMI_D8/USART3_TX/EVENTOUT", 112 PC11 (io) "PC11/UART4_RX/SPI3_MISO/SDIO_D3/DCMI_D4/USART3_RX/I2S3ext_SD/EVENTOUT", 113 PC12 (io) "PC12/UART5_TX/SDIO_CK/DCMI_D9/SPI3_MOSI/I2S3_SD/USART3_CK/EVENTOUT", 114 PD0 (io) "PD0/FSMC_D2/CAN1_RX/EVENTOUT", 115 PD1 (io) "PD1/FSMC_D3/CAN1_TX/EVENTOUT", 116 PD2 (io) "PD2/TIM3_ETR/UART5_RX/SDIO_CMD/DCMI_D11/EVENTOUT", 117 PD3 (io) "PD3/FSMC_CLK/USART2_CTS/EVENTOUT", 118 PD4 (io) "PD4/FSMC_NOE/USART2_RTS/EVENTOUT", 119 PD5 (io) "PD5/FSMC_NWE/USART2_TX/EVENTOUT", 122 PD6 (io) "PD6/FSMC_NWAIT/USART2_RX/EVENTOUT", 123 PD7 (io) "PD7/USART2_CK/FSMC_NE1/FSMC_NCE2/EVENTOUT", 133 PB3(JTDO/TRACESWO) (io) "PB3(JTDO/TRACESWO)/JTDO/TRACESWO/SPI3_SCK/I2S3_CK/TIM2_CH2/SPI1_SCK/EVENTOUT", 134 PB4(NJTRST) (io) "PB4(NJTRST)/NJTRST/SPI3_MISO/TIM3_CH1/SPI1_MISO/I2S3ext_SD/EVENTOUT", 135 PB5 (io) "PB5/I2C1_SMBA/CAN2_RX/OTG_HS_ULPI_D7/ETH_PPS_OUT/TIM3_CH2/SPI1_MOSI/SPI3_MOSI/DCMI_D10/I2S3_SD/EVENTOUT", 136 PB6 (io) "PB6/I2C1_SCL/TIM4_CH1/CAN2_TX/DCMI_D5/USART1_TX/EVENTOUT", 137 PB7 (io) "PB7/I2C1_SDA/FSMC_NL/DCMI_VSYNC/USART1_RX/TIM4_CH2/EVENTOUT", 139 PB8 (io) "PB8/TIM4_CH3/SDIO_D4/TIM10_CH1/DCMI_D6/ETH_MII_TXD3/I2C1_SCL/CAN1_RX/EVENTOUT", 140 PB9 (io) "PB9/SPI2_NSS/I2S2_WS/TIM4_CH4/TIM11_CH1/SDIO_D5/DCMI_D7/I2C1_SDA/CAN1_TX/EVENTOUT"
part B pins: 1 PE2 (io) "PE2/TRACECLK/FSMC_A23/ETH_MII_TXD3/EVENTOUT", 2 PE3 (io) "PE3/TRACED0/FSMC_A19/EVENTOUT", 3 PE4 (io) "PE4/TRACED1/FSMC_A20/DCMI_D4/EVENTOUT", 4 PE5 (io) "PE5/TRACED2/FSMC_A21/TIM9_CH1/DCMI_D6/EVENTOUT", 5 PE6 (io) "PE6/TRACED3/FSMC_A22/TIM9_CH2/DCMI_D7/EVENTOUT", 10 PF0 (io) "PF0/FSMC_A0/I2C2_SDA/EVENTOUT", 11 PF1 (io) "PF1/FSMC_A1/I2C2_SCL/EVENTOUT", 12 PF2 (io) "PF2/FSMC_A2/I2C2_SMBA/EVENTOUT", 13 PF3 (io) "PF3/FSMC_A3/EVENTOUT/ADC3_IN9", 14 PF4 (io) "PF4/FSMC_A4/EVENTOUT/ADC3_IN14", 15 PF5 (io) "PF5/FSMC_A5/EVENTOUT/ADC3_IN15", 18 PF6 (io) "PF6/TIM10_CH1/FSMC_NIORD/EVENTOUT/ADC3_IN4", 19 PF7 (io) "PF7/TIM11_CH1/FSMC_NREG/EVENTOUT/ADC3_IN5", 20 PF8 (io) "PF8/TIM13_CH1/FSMC_NIOWR/EVENTOUT/ADC3_IN6", 21 PF9 (io) "PF9/TIM14_CH1/FSMC_CD/EVENTOUT/ADC3_IN7", 22 PF10 (io) "PF10/FSMC_INTR/EVENTOUT/ADC3_IN8", 23 PH0-OSC_IN(PH0) (io) "PH0-OSC_IN(PH0)/EVENTOUT/OSC_IN", 24 PH1-OSC_OUT(PH1) (io) "PH1-OSC_OUT(PH1)/EVENTOUT/OSC_OUT", 25 NRST (io), 49 PF11 (io) "PF11/DCMI_D12/EVENTOUT", 50 PF12 (io) "PF12/FSMC_A6/EVENTOUT", 53 PF13 (io) "PF13/FSMC_A7/EVENTOUT", 54 PF14 (io) "PF14/FSMC_A8/EVENTOUT", 55 PF15 (io) "PF15/FSMC_A9/EVENTOUT", 56 PG0 (io) "PG0/FSMC_A10/EVENTOUT", 57 PG1 (io) "PG1/FSMC_A11/EVENTOUT", 58 PE7 (io) "PE7/FSMC_D4/TIM1_ETR/EVENTOUT", 59 PE8 (io) "PE8/FSMC_D5/TIM1_CH1N/EVENTOUT", 60 PE9 (io) "PE9/FSMC_D6/TIM1_CH1/EVENTOUT", 63 PE10 (io) "PE10/FSMC_D7/TIM1_CH2N/EVENTOUT", 64 PE11 (io) "PE11/FSMC_D8/TIM1_CH2/EVENTOUT", 65 PE12 (io) "PE12/FSMC_D9/TIM1_CH3N/EVENTOUT", 66 PE13 (io) "PE13/FSMC_D10/TIM1_CH3/EVENTOUT", 67 PE14 (io) "PE14/FSMC_D11/TIM1_CH4/EVENTOUT", 68 PE15 (io) "PE15/FSMC_D12/TIM1_BKIN/EVENTOUT", 71 VCAP_1 (power), 87 PG2 (io) "PG2/FSMC_A12/EVENTOUT", 88 PG3 (io) "PG3/FSMC_A13/EVENTOUT", 89 PG4 (io) "PG4/FSMC_A14/EVENTOUT", 90 PG5 (io) "PG5/FSMC_A15/EVENTOUT", 91 PG6 (io) "PG6/FSMC_INT2/EVENTOUT", 92 PG7 (io) "PG7/FSMC_INT3/USART6_CK/EVENTOUT", 93 PG8 (io) "PG8/USART6_RTS/ETH_PPS_OUT/EVENTOUT", 106 VCAP_2 (power), 124 PG9 (io) "PG9/USART6_RX/FSMC_NE2/FSMC_NCE3/EVENTOUT", 125 PG10 (io) "PG10/FSMC_NCE4_1/FSMC_NE3/EVENTOUT", 126 PG11 (io) "PG11/FSMC_NCE4_2/ETH_MII_TX_EN/ETH_RMII_TX_EN/EVENTOUT", 127 PG12 (io) "PG12/FSMC_NE4/USART6_RTS/EVENTOUT", 128 PG13 (io) "PG13/FSMC_A24/USART6_CTS/ETH_MII_TXD0/ETH_RMII_TXD0/EVENTOUT", 129 PG14 (io) "PG14/FSMC_A25/USART6_TX/ETH_MII_TXD1/ETH_RMII_TXD1/EVENTOUT", 132 PG15 (io) "PG15/USART6_CTS/DCMI_D13/EVENTOUT", 138 BOOT0 (in) "BOOT0/VPP", 141 PE0 (io) "PE0/TIM4_ETR/FSMC_NBL0/DCMI_D2/EVENTOUT", 142 PE1 (io) "PE1/FSMC_NBL1/DCMI_D3/EVENTOUT", 143 PDR_ON (in)
part C pins: 6 VBAT (power), 16 VSS (power), 17 VDD (power), 30 VDD (power), 31 VSSA (power), 32 VREF+ (power), 33 VDDA (power), 38 VSS (power), 39 VDD (power), 51 VSS (power), 52 VDD (power), 61 VSS (power), 62 VDD (power), 72 VDD (power), 83 VSS (power), 84 VDD (power), 94 VSS (power), 95 VDD (power), 107 VSS (power), 108 VDD (power), 120 VSS (power), 121 VDD (power), 130 VSS (power), 131 VDD (power), 144 VDD (power)

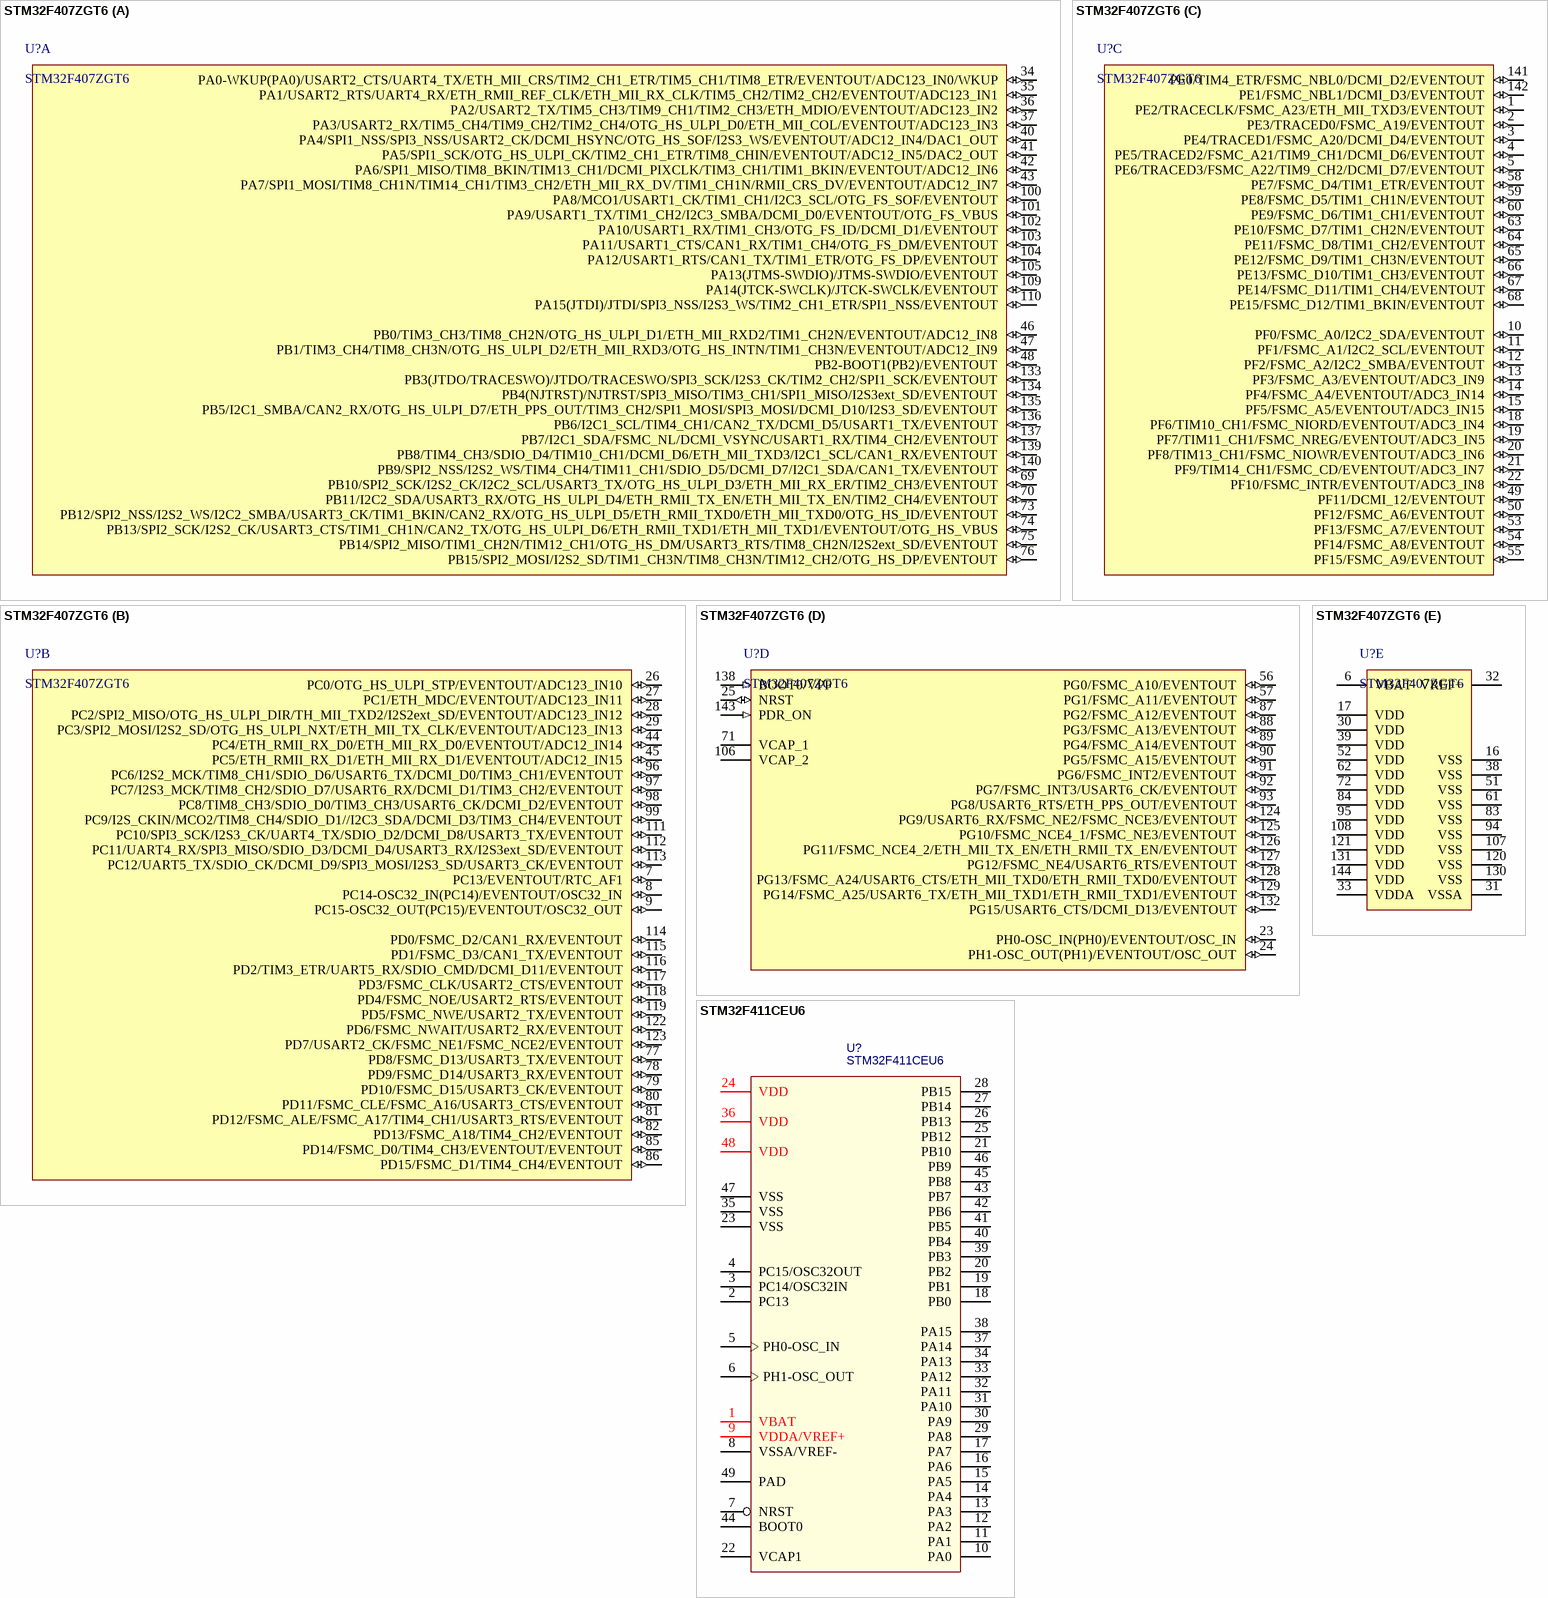
[diagram p7: symbols STM32F407ZGT6 to STM32F411CEU6]

## STM32F407ZGT6
designator U?
ARM Cortex-M4 32b MCU+FPU, 210DMIP, 1024 kB Flash, 192+4 kB RAM, Camera, 114 I/Os, 144-pin LQFP, -40 to +85癈, Tray; Internal RAM: 192kB; Operating Frequency (Processor Speed): 168MHz; A/D Converter: 24x12-bit; D/A Converter: 2x12-bit; 16-bit Timers (IC/OC/PWM): 12x16-bit(24/24/30); 32-bit Timer (IC/OC/PWM): 2x32-bit (8/8/8); Other Timer Functions: 2xWDG, RTC, 24-bit down counter; Serial Interface: 3xSPI/2xI2S/2xI2C/3xUSART(IrDa, ISO7816)/3xUART/2xUSB OTG FS/HS, 2xCAN/Ethernet MAC10/100, SDIO; 联系卖家，免费查找封装: 唯一出售店铺网址https://shop463601444.taobao.com; DatasheetVersion: rev2, Jan-2012; PackageVersion: 2012; PackageReference: TQFP144; PackageDescription: 144-Pin Low Profile Quad Flat Package, 20x20 mm Body, 0.5 mm Pitch; ComponentLink1Description: Manufacturer URL; ComponentLink1URL: http://www.st.com/; ComponentLink2Description: STM32F405/7 Datasheet; ComponentLink2URL: http://www.st.com/internet/com/TECHNICAL_RESOURCES/TECHNICAL_LITERATURE/DATASHEET/DM00037051.pdf; ComponentLink3Description: STM32F4 Web Page; ComponentLink3URL: http://www.st.com/internet/mcu/subclass/1521.jsp
footprint STM32F407ZGT6 (144脚，体宽：20x20mm, 脚距：0.5mm  淘宝ID:黄晶宝石)
part A pins: 34 PA0-WKUP(PA0)/USART2_CTS/UART4_TX/ETH_MII_CRS/TIM2_CH1_ETR/TIM5_CH1/TIM8_ETR/EVENTOUT/ADC123_IN0/WKUP (io), 35 PA1/USART2_RTS/UART4_RX/ETH_RMII_REF_CLK/ETH_MII_RX_CLK/TIM5_CH2/TIM2_CH2/EVENTOUT/ADC123_IN1 (io), 36 PA2/USART2_TX/TIM5_CH3/TIM9_CH1/TIM2_CH3/ETH_MDIO/EVENTOUT/ADC123_IN2 (io), 37 PA3/USART2_RX/TIM5_CH4/TIM9_CH2/TIM2_CH4/OTG_HS_ULPI_D0/ETH_MII_COL/EVENTOUT/ADC123_IN3 (io), 40 PA4/SPI1_NSS/SPI3_NSS/USART2_CK/DCMI_HSYNC/OTG_HS_SOF/I2S3_WS/EVENTOUT/ADC12_IN4/DAC1_OUT (io), 41 PA5/SPI1_SCK/OTG_HS_ULPI_CK/TIM2_CH1_ETR/TIM8_CHIN/EVENTOUT/ADC12_IN5/DAC2_OUT (io), 42 PA6/SPI1_MISO/TIM8_BKIN/TIM13_CH1/DCMI_PIXCLK/TIM3_CH1/TIM1_BKIN/EVENTOUT/ADC12_IN6 (io), 43 PA7/SPI1_MOSI/TIM8_CH1N/TIM14_CH1/TIM3_CH2/ETH_MII_RX_DV/TIM1_CH1N/RMII_CRS_DV/EVENTOUT/ADC12_IN7 (io), 46 PB0/TIM3_CH3/TIM8_CH2N/OTG_HS_ULPI_D1/ETH_MII_RXD2/TIM1_CH2N/EVENTOUT/ADC12_IN8 (io), 47 PB1/TIM3_CH4/TIM8_CH3N/OTG_HS_ULPI_D2/ETH_MII_RXD3/OTG_HS_INTN/TIM1_CH3N/EVENTOUT/ADC12_IN9 (io), 48 PB2-BOOT1(PB2)/EVENTOUT (io), 69 PB10/SPI2_SCK/I2S2_CK/I2C2_SCL/USART3_TX/OTG_HS_ULPI_D3/ETH_MII_RX_ER/TIM2_CH3/EVENTOUT (io), 70 PB11/I2C2_SDA/USART3_RX/OTG_HS_ULPI_D4/ETH_RMII_TX_EN/ETH_MII_TX_EN/TIM2_CH4/EVENTOUT (io), 73 PB12/SPI2_NSS/I2S2_WS/I2C2_SMBA/USART3_CK/TIM1_BKIN/CAN2_RX/OTG_HS_ULPI_D5/ETH_RMII_TXD0/ETH_MII_TXD0/OTG_HS_ID/EVENTOUT (io), 74 PB13/SPI2_SCK/I2S2_CK/USART3_CTS/TIM1_CH1N/CAN2_TX/OTG_HS_ULPI_D6/ETH_RMII_TXD1/ETH_MII_TXD1/EVENTOUT/OTG_HS_VBUS (io), 75 PB14/SPI2_MISO/TIM1_CH2N/TIM12_CH1/OTG_HS_DM/USART3_RTS/TIM8_CH2N/I2S2ext_SD/EVENTOUT (io), 76 PB15/SPI2_MOSI/I2S2_SD/TIM1_CH3N/TIM8_CH3N/TIM12_CH2/OTG_HS_DP/EVENTOUT (io), 100 PA8/MCO1/USART1_CK/TIM1_CH1/I2C3_SCL/OTG_FS_SOF/EVENTOUT (io), 101 PA9/USART1_TX/TIM1_CH2/I2C3_SMBA/DCMI_D0/EVENTOUT/OTG_FS_VBUS (io), 102 PA10/USART1_RX/TIM1_CH3/OTG_FS_ID/DCMI_D1/EVENTOUT (io), 103 PA11/USART1_CTS/CAN1_RX/TIM1_CH4/OTG_FS_DM/EVENTOUT (io), 104 PA12/USART1_RTS/CAN1_TX/TIM1_ETR/OTG_FS_DP/EVENTOUT (io), 105 PA13(JTMS-SWDIO)/JTMS-SWDIO/EVENTOUT (io), 109 PA14(JTCK-SWCLK)/JTCK-SWCLK/EVENTOUT (io), 110 PA15(JTDI)/JTDI/SPI3_NSS/I2S3_WS/TIM2_CH1_ETR/SPI1_NSS/EVENTOUT (io), 133 PB3(JTDO/TRACESWO)/JTDO/TRACESWO/SPI3_SCK/I2S3_CK/TIM2_CH2/SPI1_SCK/EVENTOUT (io), 134 PB4(NJTRST)/NJTRST/SPI3_MISO/TIM3_CH1/SPI1_MISO/I2S3ext_SD/EVENTOUT (io), 135 PB5/I2C1_SMBA/CAN2_RX/OTG_HS_ULPI_D7/ETH_PPS_OUT/TIM3_CH2/SPI1_MOSI/SPI3_MOSI/DCMI_D10/I2S3_SD/EVENTOUT (io), 136 PB6/I2C1_SCL/TIM4_CH1/CAN2_TX/DCMI_D5/USART1_TX/EVENTOUT (io), 137 PB7/I2C1_SDA/FSMC_NL/DCMI_VSYNC/USART1_RX/TIM4_CH2/EVENTOUT (io), 139 PB8/TIM4_CH3/SDIO_D4/TIM10_CH1/DCMI_D6/ETH_MII_TXD3/I2C1_SCL/CAN1_RX/EVENTOUT (io), 140 PB9/SPI2_NSS/I2S2_WS/TIM4_CH4/TIM11_CH1/SDIO_D5/DCMI_D7/I2C1_SDA/CAN1_TX/EVENTOUT (io)
part B pins: 7 PC13/EVENTOUT/RTC_AF1 (io), 8 PC14-OSC32_IN(PC14)/EVENTOUT/OSC32_IN (io), 9 PC15-OSC32_OUT(PC15)/EVENTOUT/OSC32_OUT (io), 26 PC0/OTG_HS_ULPI_STP/EVENTOUT/ADC123_IN10 (io), 27 PC1/ETH_MDC/EVENTOUT/ADC123_IN11 (io), 28 PC2/SPI2_MISO/OTG_HS_ULPI_DIR/TH_MII_TXD2/I2S2ext_SD/EVENTOUT/ADC123_IN12 (io), 29 PC3/SPI2_MOSI/I2S2_SD/OTG_HS_ULPI_NXT/ETH_MII_TX_CLK/EVENTOUT/ADC123_IN13 (io), 44 PC4/ETH_RMII_RX_D0/ETH_MII_RX_D0/EVENTOUT/ADC12_IN14 (io), 45 PC5/ETH_RMII_RX_D1/ETH_MII_RX_D1/EVENTOUT/ADC12_IN15 (io), 77 PD8/FSMC_D13/USART3_TX/EVENTOUT (io), 78 PD9/FSMC_D14/USART3_RX/EVENTOUT (io), 79 PD10/FSMC_D15/USART3_CK/EVENTOUT (io), 80 PD11/FSMC_CLE/FSMC_A16/USART3_CTS/EVENTOUT (io), 81 PD12/FSMC_ALE/FSMC_A17/TIM4_CH1/USART3_RTS/EVENTOUT (io), 82 PD13/FSMC_A18/TIM4_CH2/EVENTOUT (io), 85 PD14/FSMC_D0/TIM4_CH3/EVENTOUT/EVENTOUT (io), 86 PD15/FSMC_D1/TIM4_CH4/EVENTOUT (io), 96 PC6/I2S2_MCK/TIM8_CH1/SDIO_D6/USART6_TX/DCMI_D0/TIM3_CH1/EVENTOUT (io), 97 PC7/I2S3_MCK/TIM8_CH2/SDIO_D7/USART6_RX/DCMI_D1/TIM3_CH2/EVENTOUT (io), 98 PC8/TIM8_CH3/SDIO_D0/TIM3_CH3/USART6_CK/DCMI_D2/EVENTOUT (io), 99 PC9/I2S_CKIN/MCO2/TIM8_CH4/SDIO_D1//I2C3_SDA/DCMI_D3/TIM3_CH4/EVENTOUT (io), 111 PC10/SPI3_SCK/I2S3_CK/UART4_TX/SDIO_D2/DCMI_D8/USART3_TX/EVENTOUT (io), 112 PC11/UART4_RX/SPI3_MISO/SDIO_D3/DCMI_D4/USART3_RX/I2S3ext_SD/EVENTOUT (io), 113 PC12/UART5_TX/SDIO_CK/DCMI_D9/SPI3_MOSI/I2S3_SD/USART3_CK/EVENTOUT (io), 114 PD0/FSMC_D2/CAN1_RX/EVENTOUT (io), 115 PD1/FSMC_D3/CAN1_TX/EVENTOUT (io), 116 PD2/TIM3_ETR/UART5_RX/SDIO_CMD/DCMI_D11/EVENTOUT (io), 117 PD3/FSMC_CLK/USART2_CTS/EVENTOUT (io), 118 PD4/FSMC_NOE/USART2_RTS/EVENTOUT (io), 119 PD5/FSMC_NWE/USART2_TX/EVENTOUT (io), 122 PD6/FSMC_NWAIT/USART2_RX/EVENTOUT (io), 123 PD7/USART2_CK/FSMC_NE1/FSMC_NCE2/EVENTOUT (io)
part C pins: 1 PE2/TRACECLK/FSMC_A23/ETH_MII_TXD3/EVENTOUT (io), 2 PE3/TRACED0/FSMC_A19/EVENTOUT (io), 3 PE4/TRACED1/FSMC_A20/DCMI_D4/EVENTOUT (io), 4 PE5/TRACED2/FSMC_A21/TIM9_CH1/DCMI_D6/EVENTOUT (io), 5 PE6/TRACED3/FSMC_A22/TIM9_CH2/DCMI_D7/EVENTOUT (io), 10 PF0/FSMC_A0/I2C2_SDA/EVENTOUT (io), 11 PF1/FSMC_A1/I2C2_SCL/EVENTOUT (io), 12 PF2/FSMC_A2/I2C2_SMBA/EVENTOUT (io), 13 PF3/FSMC_A3/EVENTOUT/ADC3_IN9 (io), 14 PF4/FSMC_A4/EVENTOUT/ADC3_IN14 (io), 15 PF5/FSMC_A5/EVENTOUT/ADC3_IN15 (io), 18 PF6/TIM10_CH1/FSMC_NIORD/EVENTOUT/ADC3_IN4 (io), 19 PF7/TIM11_CH1/FSMC_NREG/EVENTOUT/ADC3_IN5 (io), 20 PF8/TIM13_CH1/FSMC_NIOWR/EVENTOUT/ADC3_IN6 (io), 21 PF9/TIM14_CH1/FSMC_CD/EVENTOUT/ADC3_IN7 (io), 22 PF10/FSMC_INTR/EVENTOUT/ADC3_IN8 (io), 49 PF11/DCMI_12/EVENTOUT (io), 50 PF12/FSMC_A6/EVENTOUT (io), 53 PF13/FSMC_A7/EVENTOUT (io), 54 PF14/FSMC_A8/EVENTOUT (io), 55 PF15/FSMC_A9/EVENTOUT (io), 58 PE7/FSMC_D4/TIM1_ETR/EVENTOUT (io), 59 PE8/FSMC_D5/TIM1_CH1N/EVENTOUT (io), 60 PE9/FSMC_D6/TIM1_CH1/EVENTOUT (io), 63 PE10/FSMC_D7/TIM1_CH2N/EVENTOUT (io), 64 PE11/FSMC_D8/TIM1_CH2/EVENTOUT (io), 65 PE12/FSMC_D9/TIM1_CH3N/EVENTOUT (io), 66 PE13/FSMC_D10/TIM1_CH3/EVENTOUT (io), 67 PE14/FSMC_D11/TIM1_CH4/EVENTOUT (io), 68 PE15/FSMC_D12/TIM1_BKIN/EVENTOUT (io), 141 PE0/TIM4_ETR/FSMC_NBL0/DCMI_D2/EVENTOUT (io), 142 PE1/FSMC_NBL1/DCMI_D3/EVENTOUT (io)
part D pins: 23 PH0-OSC_IN(PH0)/EVENTOUT/OSC_IN (io), 24 PH1-OSC_OUT(PH1)/EVENTOUT/OSC_OUT (io), 25 NRST (io), 56 PG0/FSMC_A10/EVENTOUT (io), 57 PG1/FSMC_A11/EVENTOUT (io), 71 VCAP_1 (power), 87 PG2/FSMC_A12/EVENTOUT (io), 88 PG3/FSMC_A13/EVENTOUT (io), 89 PG4/FSMC_A14/EVENTOUT (io), 90 PG5/FSMC_A15/EVENTOUT (io), 91 PG6/FSMC_INT2/EVENTOUT (io), 92 PG7/FSMC_INT3/USART6_CK/EVENTOUT (io), 93 PG8/USART6_RTS/ETH_PPS_OUT/EVENTOUT (io), 106 VCAP_2 (power), 124 PG9/USART6_RX/FSMC_NE2/FSMC_NCE3/EVENTOUT (io), 125 PG10/FSMC_NCE4_1/FSMC_NE3/EVENTOUT (io), 126 PG11/FSMC_NCE4_2/ETH_MII_TX_EN/ETH_RMII_TX_EN/EVENTOUT (io), 127 PG12/FSMC_NE4/USART6_RTS/EVENTOUT (io), 128 PG13/FSMC_A24/USART6_CTS/ETH_MII_TXD0/ETH_RMII_TXD0/EVENTOUT (io), 129 PG14/FSMC_A25/USART6_TX/ETH_MII_TXD1/ETH_RMII_TXD1/EVENTOUT (io), 132 PG15/USART6_CTS/DCMI_D13/EVENTOUT (io), 138 BOOT0/VPP (in), 143 PDR_ON (in)
part E pins: 6 VBAT (power), 16 VSS (power), 17 VDD (power), 30 VDD (power), 31 VSSA (power), 32 VREF+ (power), 33 VDDA (power), 38 VSS (power), 39 VDD (power), 51 VSS (power), 52 VDD (power), 61 VSS (power), 62 VDD (power), 72 VDD (power), 83 VSS (power), 84 VDD (power), 94 VSS (power), 95 VDD (power), 107 VSS (power), 108 VDD (power), 120 VSS (power), 121 VDD (power), 130 VSS (power), 131 VDD (power), 144 VDD (power)

## STM32F411CEU6
designator U?
BOM_Manufacturer: STMicroelectronics; BOM_Supplier: LCSC; BOM_Manufacturer Part: STM32F411CEU6; BOM_Supplier Part: C60420; BOM_JLCPCB Part Class: Extended Part; spicePre: U; spiceSymbolName: STM32F411CEU6
footprint STM32F411CEU6
pins: 1 VBAT, 2 PC13, 3 PC14/OSC32IN, 4 PC15/OSC32OUT, 5 PH0-OSC_IN, 6 PH1-OSC_OUT, 7 NRST, 8 VSSA/VREF-, 9 VDDA/VREF+, 10 PA0, 11 PA1, 12 PA2, 13 PA3, 14 PA4, 15 PA5, 16 PA6, 17 PA7, 18 PB0, 19 PB1, 20 PB2, 21 PB10, 22 VCAP1, 23 VSS, 24 VDD, 25 PB12, 26 PB13, 27 PB14, 28 PB15, 29 PA8, 30 PA9, 31 PA10, 32 PA11, 33 PA12, 34 PA13, 35 VSS, 36 VDD, 37 PA14, 38 PA15, 39 PB3, 40 PB4, 41 PB5, 42 PB6, 43 PB7, 44 BOOT0, 45 PB8, 46 PB9, 47 VSS, 48 VDD, 49 PAD

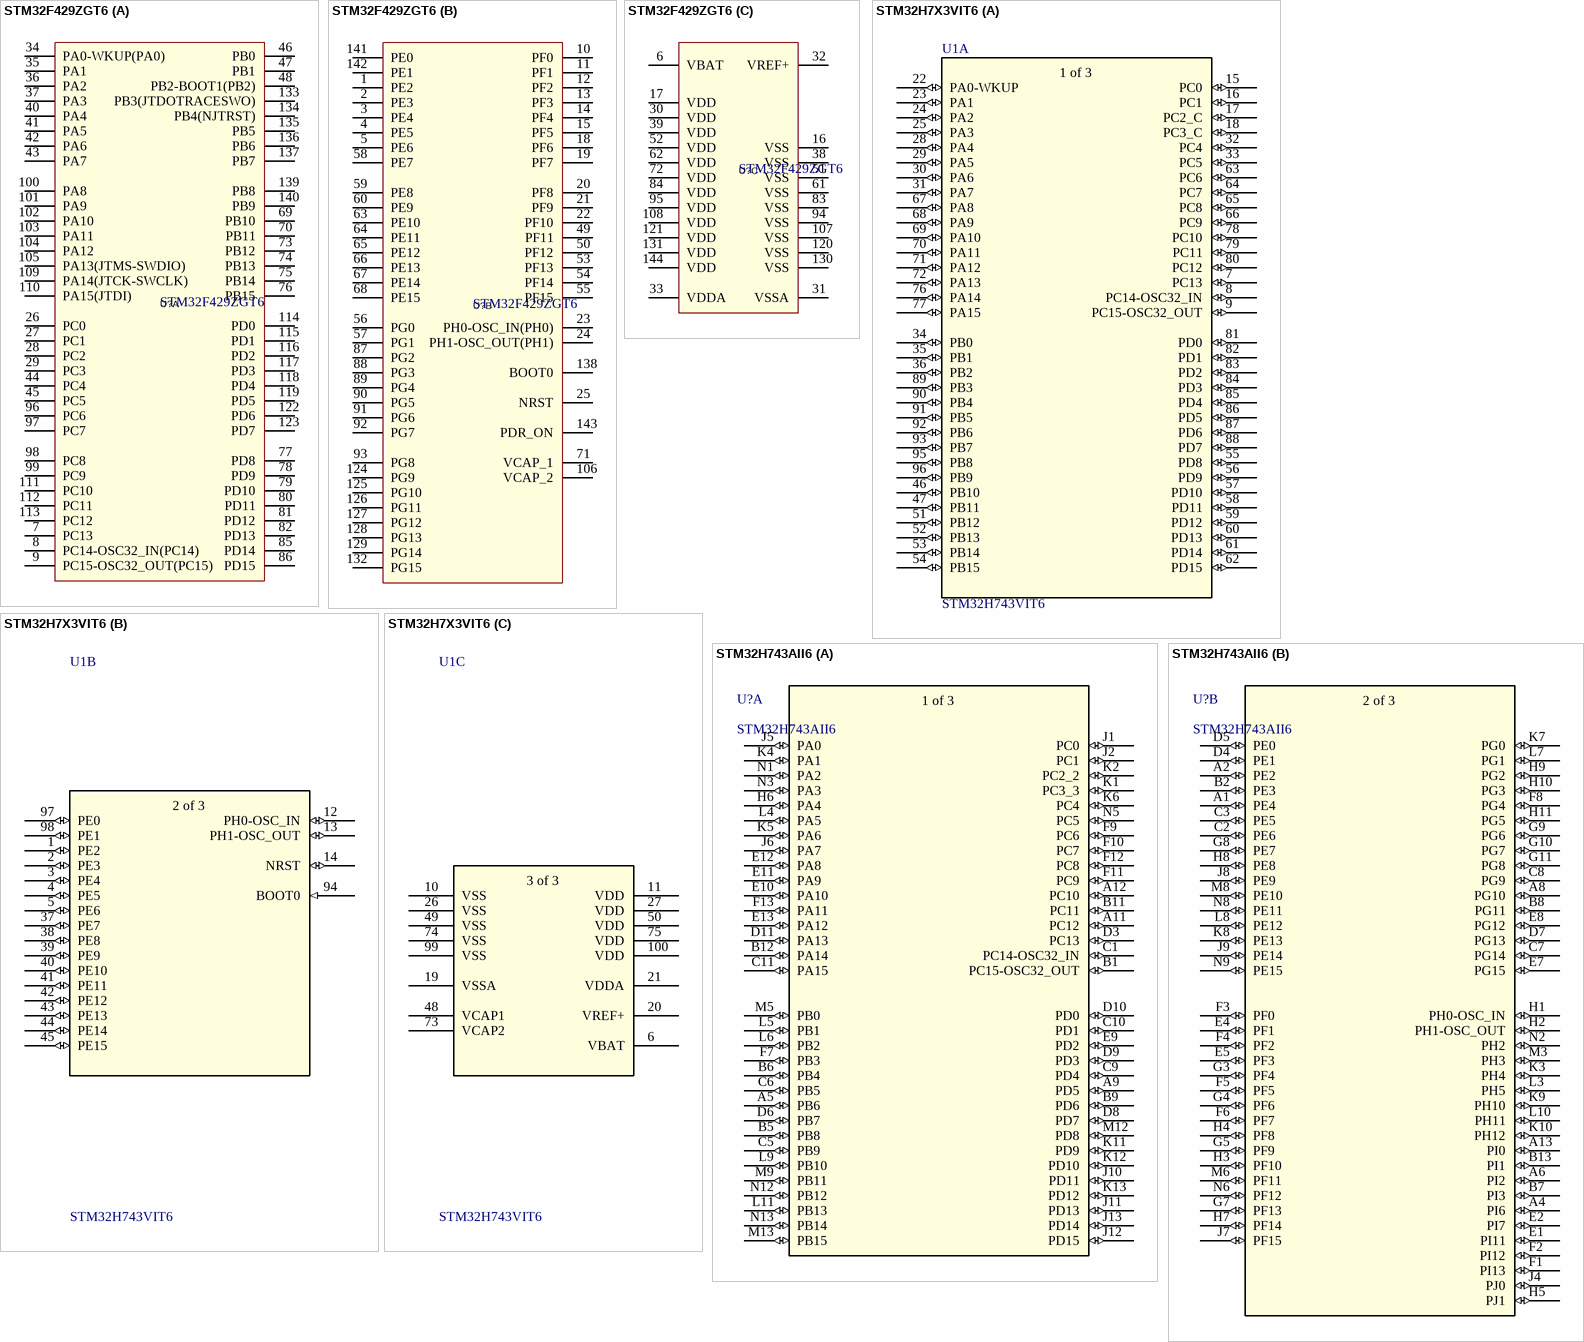
[diagram p8: symbols STM32F429ZGT6 to STM32H743AII6]

## STM32F429ZGT6
designator U?
Manufacturer: ST(意法半导体); Add into BOM: yes; CPU Core: ARM Cortex-M4; CPU Maximum Speed: 180MHz; Operating Voltage Range: 1.8V~3.6V; Program Storage Size: 1MB; GPIO Ports Number: 114; ADC (Bit): 12bit; Universal Serial Bus: 有; tags: STM32; Name: STM32F429ZGT6; Symbol: STM32F429ZGT6; Device: STM32F429ZGT6; LCSC Part Name: STM32F429ZGT6; Supplier Part: C46525; Manufacturer Part: STM32F429ZGT6; Supplier Footprint: LQFP-144(20x20); JLCPCB Part Class: Extended Part; Datasheet: https://atta.szlcsc.com/upload/public/pdf/source/20170102/1483323670635.pdf; Supplier: LCSC; Convert to PCB: yes; Program Memory Type: -; RAM Size: -; EEPROM: -; DAC (Bit): 12bit; PWM (Bit): -; Internal Comparator: -; communication protocol: -; Watchdog: 有; Real-Time Clock: -; Infrared Data Association: 有; Low-Voltage Detect: 有; CCP Capture/Compare: -; LCD Module: 有; Secure Digital Input and Output: -; Direct Memory Access: 有; Internal Oscillator: 有; Operating Temperature Range: -40℃~+85℃; image: http://image.lceda.cn/szlcsc/C46525.jpg
footprint STM32F429-LQFP-144
part A pins: 7 PC13, 8 PC14-OSC32_IN(PC14), 9 PC15-OSC32_OUT(PC15), 26 PC0, 27 PC1, 28 PC2, 29 PC3, 34 PA0-WKUP(PA0), 35 PA1, 36 PA2, 37 PA3, 40 PA4, 41 PA5, 42 PA6, 43 PA7, 44 PC4, 45 PC5, 46 PB0, 47 PB1, 48 PB2-BOOT1(PB2), 69 PB10, 70 PB11, 73 PB12, 74 PB13, 75 PB14, 76 PB15, 77 PD8, 78 PD9, 79 PD10, 80 PD11, 81 PD12, 82 PD13, 85 PD14, 86 PD15 hidden, 86 PD15, 96 PC6, 97 PC7, 98 PC8, 99 PC9, 100 PA8, 101 PA9, 102 PA10, 103 PA11, 104 PA12, 105 PA13(JTMS-SWDIO), 109 PA14(JTCK-SWCLK), 110 PA15(JTDI), 111 PC10, 112 PC11, 113 PC12, 114 PD0, 115 PD1, 116 PD2, 117 PD3, 118 PD4, 119 PD5, 122 PD6, 123 PD7, 133 PB3(JTDOTRACESWO), 134 PB4(NJTRST), 135 PB5, 136 PB6, 137 PB7, 139 PB8, 140 PB9
part B pins: 1 PE2, 2 PE3, 3 PE4, 4 PE5, 5 PE6, 10 PF0, 11 PF1, 12 PF2, 13 PF3, 14 PF4, 15 PF5, 18 PF6, 19 PF7, 20 PF8, 21 PF9, 22 PF10, 23 PH0-OSC_IN(PH0), 24 PH1-OSC_OUT(PH1), 25 NRST, 49 PF11, 50 PF12, 53 PF13, 54 PF14, 55 PF15, 56 PG0, 57 PG1, 58 PE7, 59 PE8, 60 PE9, 63 PE10, 64 PE11, 65 PE12, 66 PE13, 67 PE14, 68 PE15, 71 VCAP_1, 87 PG2, 88 PG3, 89 PG4, 90 PG5, 91 PG6, 92 PG7, 93 PG8, 106 VCAP_2, 124 PG9, 125 PG10, 126 PG11, 127 PG12, 128 PG13, 129 PG14, 132 PG15, 138 BOOT0, 141 PE0, 142 PE1, 143 PDR_ON
part C pins: 6 VBAT, 16 VSS, 17 VDD, 30 VDD, 31 VSSA, 32 VREF+, 33 VDDA, 38 VSS, 39 VDD, 51 VSS, 52 VDD, 61 VSS, 62 VDD, 72 VDD, 83 VSS, 84 VDD, 94 VSS, 95 VDD, 107 VSS, 108 VDD, 120 VSS, 121 VDD, 130 VSS, 131 VDD, 144 VDD

## STM32H7X3VIT6
designator U1, comment STM32H743VIT6
footprint STM-LQFP100_N (Thin QFP, 100-Leads, Body 14x14mm, Pitch 0.5mm, IPC Medium Density)
footprint STM-LQFP100_M (Thin QFP, 100-Leads, Body 14x14mm, Pitch 0.5mm, IPC Medium Density)
footprint STM-LQFP100_L (Thin QFP, 100-Leads, Body 14x14mm, Pitch 0.5mm, IPC High Density)
part A pins: 7 PC13 (io), 8 PC14-OSC32_IN (io), 9 PC15-OSC32_OUT (io), 15 PC0 (io), 16 PC1 (io), 17 PC2_C (io), 18 PC3_C (io), 22 PA0-WKUP (io), 23 PA1 (io), 24 PA2 (io), 25 PA3 (io), 28 PA4 (io), 29 PA5 (io), 30 PA6 (io), 31 PA7 (io), 32 PC4 (io), 33 PC5 (io), 34 PB0 (io), 35 PB1 (io), 36 PB2 (io), 46 PB10 (io), 47 PB11 (io), 51 PB12 (io), 52 PB13 (io), 53 PB14 (io), 54 PB15 (io), 55 PD8 (io), 56 PD9 (io), 57 PD10 (io), 58 PD11 (io), 59 PD12 (io), 60 PD13 (io), 61 PD14 (io), 62 PD15 (io), 63 PC6 (io), 64 PC7 (io), 65 PC8 (io), 66 PC9 (io), 67 PA8 (io), 68 PA9 (io), 69 PA10 (io), 70 PA11 (io), 71 PA12 (io), 72 PA13 (io), 76 PA14 (io), 77 PA15 (io), 78 PC10 (io), 79 PC11 (io), 80 PC12 (io), 81 PD0 (io), 82 PD1 (io), 83 PD2 (io), 84 PD3 (io), 85 PD4 (io), 86 PD5 (io), 87 PD6 (io), 88 PD7 (io), 89 PB3 (io), 90 PB4 (io), 91 PB5 (io), 92 PB6 (io), 93 PB7 (io), 95 PB8 (io), 96 PB9 (io)
part B pins: 1 PE2 (io), 2 PE3 (io), 3 PE4 (io), 4 PE5 (io), 5 PE6 (io), 12 PH0-OSC_IN (io), 13 PH1-OSC_OUT (io), 14 NRST (io), 37 PE7 (io), 38 PE8 (io), 39 PE9 (io), 40 PE10 (io), 41 PE11 (io), 42 PE12 (io), 43 PE13 (io), 44 PE14 (io), 45 PE15 (io), 94 BOOT0 (in), 97 PE0 (io), 98 PE1 (io)
part C pins: 6 VBAT (power), 10 VSS (power), 11 VDD (power), 19 VSSA (power), 20 VREF+ (power), 21 VDDA (power), 26 VSS (power), 27 VDD (power), 48 VCAP1 (power), 49 VSS (power), 50 VDD (power), 73 VCAP2 (power), 74 VSS (power), 75 VDD (power), 99 VSS (power), 100 VDD (power)
part A text: 1 of 3
part B text: 2 of 3
part C text: 3 of 3

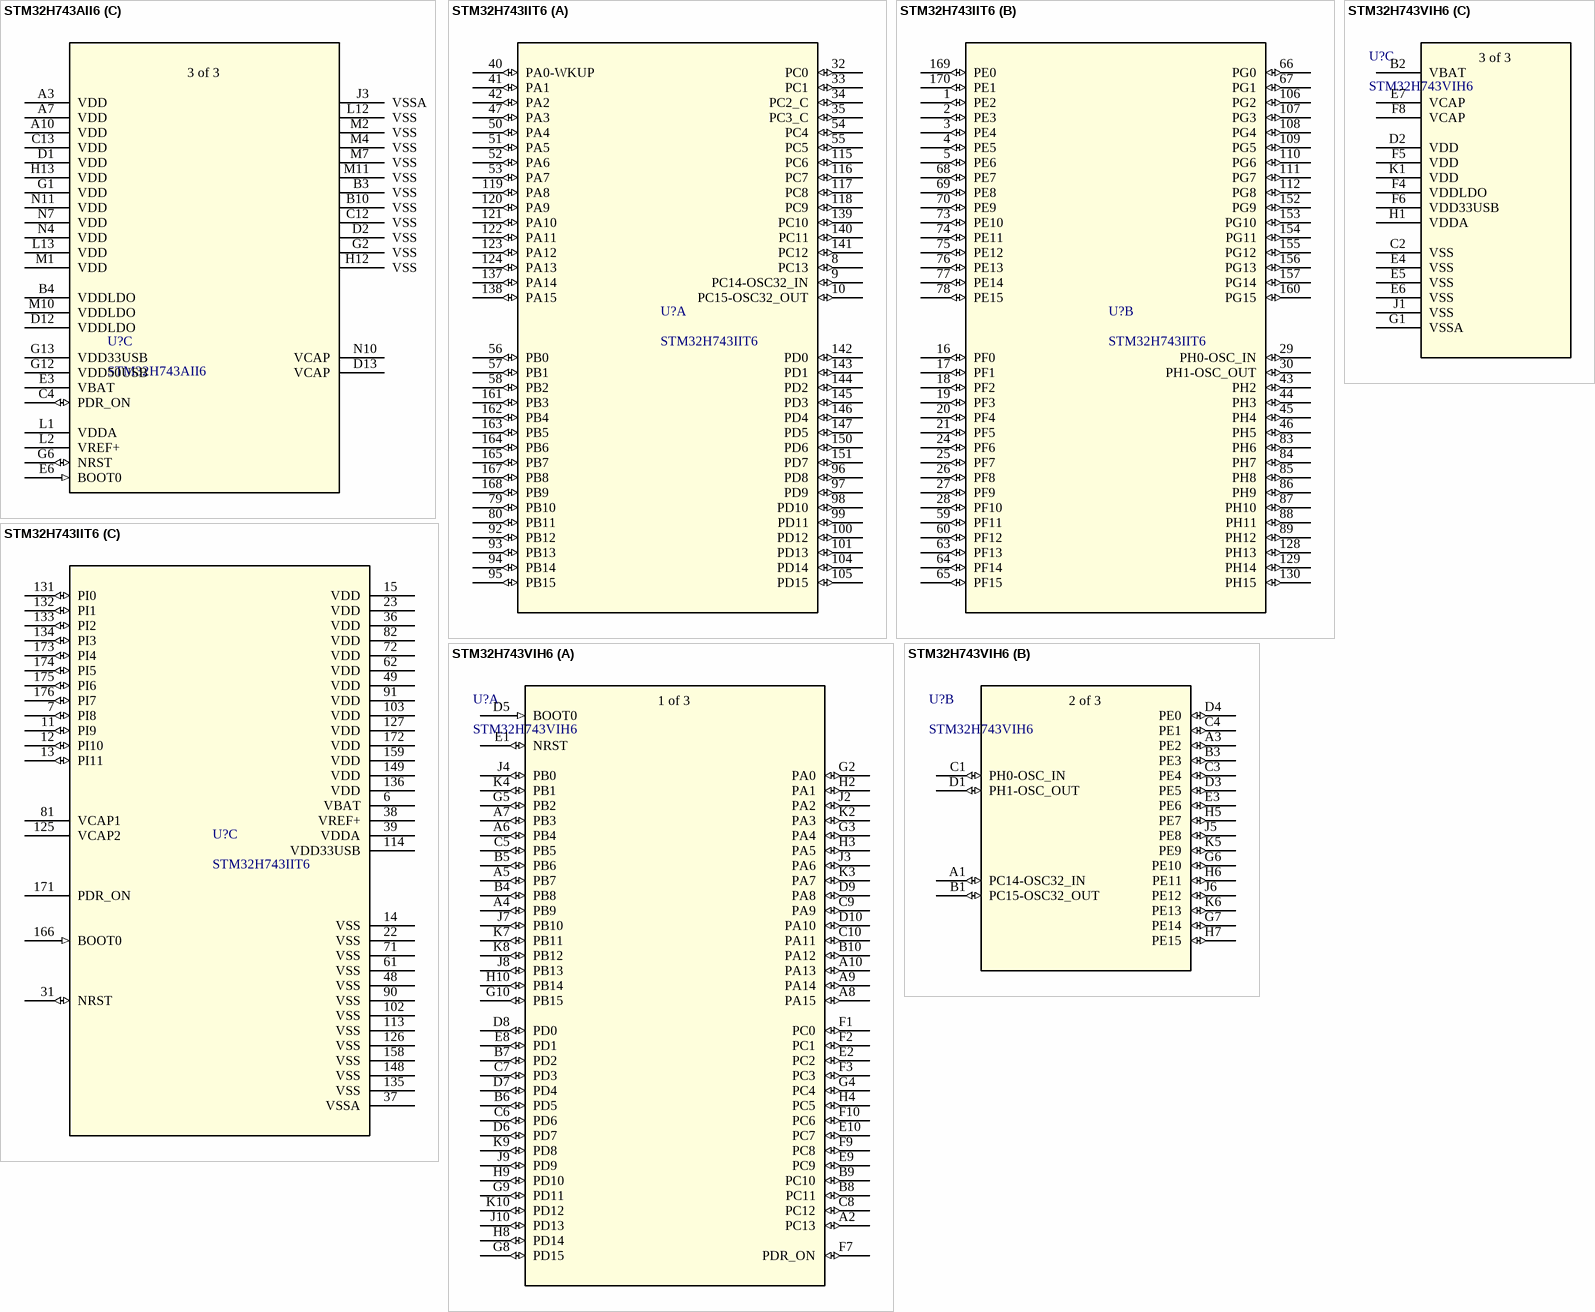
[diagram p9: symbols STM32H743AII6 to STM32H743VIH6]

## STM32H743AII6
designator U?
No Description Available; Mfr_Name: STMicroelectronics; Copyright: Copyright (C) 2023 Ultra Librarian. All rights reserved.; Manufacturer_Part_Number: STM32H743AII6; RefDes: RefDes; Type: DEV
footprint STM32H743AII6
part A pins: A5 PB6 (io), A9 PD5 (io), A11 PC12 (io), A12 PC10 (io), B1 PC15-OSC32_OUT (io), B5 PB8 (io), B6 PB4 (io), B9 PD6 (io), B11 PC11 (io), B12 PA14 (io), C1 PC14-OSC32_IN (io), C5 PB9 (io), C6 PB5 (io), C9 PD4 (io), C10 PD1 (io), C11 PA15 (io), D3 PC13 (io), D6 PB7 (io), D8 PD7 (io), D9 PD3 (io), D10 PD0 (io), D11 PA13 (io), E9 PD2 (io), E10 PA10 (io), E11 PA9 (io), E12 PA8 (io), E13 PA12 (io), F7 PB3 (io), F9 PC6 (io), F10 PC7 (io), F11 PC9 (io), F12 PC8 (io), F13 PA11 (io), H6 PA4 (io), J1 PC0 (io), J2 PC1 (io), J5 PA0 (io), J6 PA7 (io), J10 PD11 (io), J11 PD13 (io), J12 PD15 (io), J13 PD14 (io), K1 PC3_3 (io), K2 PC2_2 (io), K4 PA1 (io), K5 PA6 (io), K6 PC4 (io), K11 PD9 (io), K12 PD10 (io), K13 PD12 (io), L4 PA5 (io), L5 PB1 (io), L6 PB2 (io), L9 PB10 (io), L11 PB13 (io), M5 PB0 (io), M9 PB11 (io), M12 PD8 (io), M13 PB15 (io), N1 PA2 (io), N3 PA3 (io), N5 PC5 (io), N12 PB12 (io), N13 PB14 (io)
part B pins: A1 PE4 (io), A2 PE2 (io), A4 PI6 (io), A6 PI2 (io), A8 PG10 (io), A13 PI0 (io), B2 PE3 (io), B7 PI3 (io), B8 PG11 (io), B13 PI1 (io), C2 PE6 (io), C3 PE5 (io), C7 PG14 (io), C8 PG9 (io), D4 PE1 (io), D5 PE0 (io), D7 PG13 (io), E1 PI11 (io), E2 PI7 (io), E4 PF1 (io), E5 PF3 (io), E7 PG15 (io), E8 PG12 (io), F1 PI13 (io), F2 PI12 (io), F3 PF0 (io), F4 PF2 (io), F5 PF5 (io), F6 PF7 (io), F8 PG4 (io), G3 PF4 (io), G4 PF6 (io), G5 PF9 (io), G7 PF13 (io), G8 PE7 (io), G9 PG6 (io), G10 PG7 (io), G11 PG8 (io), H1 PH0-OSC_IN (io), H2 PH1-OSC_OUT (io), H3 PF10 (io), H4 PF8 (io), H5 PJ1 (io), H7 PF14 (io), H8 PE8 (io), H9 PG2 (io), H10 PG3 (io), H11 PG5 (io), J4 PJ0 (io), J7 PF15 (io), J8 PE9 (io), J9 PE14 (io), K3 PH4 (io), K7 PG0 (io), K8 PE13 (io), K9 PH10 (io), K10 PH12 (io), L3 PH5 (io), L7 PG1 (io), L8 PE12 (io), L10 PH11 (io), M3 PH3 (io), M6 PF11 (io), M8 PE10 (io), N2 PH2 (io), N6 PF12 (io), N8 PE11 (io), N9 PE15 (io)
part C pins: A3 VDD (power), A7 VDD (power), A10 VDD (power), B3 VSS (power), B4 VDDLDO (power), B10 VSS (power), C4 PDR_ON (io), C12 VSS (power), C13 VDD (power), D1 VDD (power), D2 VSS (power), D12 VDDLDO (power), D13 VCAP (power), E3 VBAT (power), E6 BOOT0 (in), G1 VDD (power), G2 VSS (power), G6 NRST (io), G12 VDD50USB (power), G13 VDD33USB (power), H12 VSS (power), H13 VDD (power), J3 VSSA (power), L1 VDDA (power), L2 VREF+ (power), L12 VSS (power), L13 VDD (power), M1 VDD (power), M2 VSS (power), M4 VSS (power), M7 VSS (power), M10 VDDLDO (power), M11 VSS (power), N4 VDD (power), N7 VDD (power), N10 VCAP (power), N11 VDD (power)
part A text: 1 of 3
part B text: 2 of 3
part C text: 3 of 3

## STM32H743IIT6
designator U?
No Description Available; Mfr_Name: STMicroelectronics; Copyright: Copyright (C) 2023 Ultra Librarian. All rights reserved.; Manufacturer_Part_Number: STM32H743IIT6; RefDes: RefDes; Type: DEV
footprint LQFP176-24x24mm
part A pins: 8 PC13 (io), 9 PC14-OSC32_IN (io), 10 PC15-OSC32_OUT (io), 32 PC0 (io), 33 PC1 (io), 34 PC2_C (io), 35 PC3_C (io), 40 PA0-WKUP (io), 41 PA1 (io), 42 PA2 (io), 47 PA3 (io), 50 PA4 (io), 51 PA5 (io), 52 PA6 (io), 53 PA7 (io), 54 PC4 (io), 55 PC5 (io), 56 PB0 (io), 57 PB1 (io), 58 PB2 (io), 79 PB10 (io), 80 PB11 (io), 92 PB12 (io), 93 PB13 (io), 94 PB14 (io), 95 PB15 (io), 96 PD8 (io), 97 PD9 (io), 98 PD10 (io), 99 PD11 (io), 100 PD12 (io), 101 PD13 (io), 104 PD14 (io), 105 PD15 (io), 115 PC6 (io), 116 PC7 (io), 117 PC8 (io), 118 PC9 (io), 119 PA8 (io), 120 PA9 (io), 121 PA10 (io), 122 PA11 (io), 123 PA12 (io), 124 PA13 (io), 137 PA14 (io), 138 PA15 (io), 139 PC10 (io), 140 PC11 (io), 141 PC12 (io), 142 PD0 (io), 143 PD1 (io), 144 PD2 (io), 145 PD3 (io), 146 PD4 (io), 147 PD5 (io), 150 PD6 (io), 151 PD7 (io), 161 PB3 (io), 162 PB4 (io), 163 PB5 (io), 164 PB6 (io), 165 PB7 (io), 167 PB8 (io), 168 PB9 (io)
part B pins: 1 PE2 (io), 2 PE3 (io), 3 PE4 (io), 4 PE5 (io), 5 PE6 (io), 16 PF0 (io), 17 PF1 (io), 18 PF2 (io), 19 PF3 (io), 20 PF4 (io), 21 PF5 (io), 24 PF6 (io), 25 PF7 (io), 26 PF8 (io), 27 PF9 (io), 28 PF10 (io), 29 PH0-OSC_IN (io), 30 PH1-OSC_OUT (io), 43 PH2 (io), 44 PH3 (io), 45 PH4 (io), 46 PH5 (io), 59 PF11 (io), 60 PF12 (io), 63 PF13 (io), 64 PF14 (io), 65 PF15 (io), 66 PG0 (io), 67 PG1 (io), 68 PE7 (io), 69 PE8 (io), 70 PE9 (io), 73 PE10 (io), 74 PE11 (io), 75 PE12 (io), 76 PE13 (io), 77 PE14 (io), 78 PE15 (io), 83 PH6 (io), 84 PH7 (io), 85 PH8 (io), 86 PH9 (io), 87 PH10 (io), 88 PH11 (io), 89 PH12 (io), 106 PG2 (io), 107 PG3 (io), 108 PG4 (io), 109 PG5 (io), 110 PG6 (io), 111 PG7 (io), 112 PG8 (io), 128 PH13 (io), 129 PH14 (io), 130 PH15 (io), 152 PG9 (io), 153 PG10 (io), 154 PG11 (io), 155 PG12 (io), 156 PG13 (io), 157 PG14 (io), 160 PG15 (io), 169 PE0 (io), 170 PE1 (io)
part C pins: 6 VBAT (power), 7 PI8 (io), 11 PI9 (io), 12 PI10 (io), 13 PI11 (io), 14 VSS (power), 15 VDD (power), 22 VSS (power), 23 VDD (power), 31 NRST (io), 36 VDD (power), 37 VSSA (power), 38 VREF+ (power), 39 VDDA (power), 48 VSS (power), 49 VDD (power), 61 VSS (power), 62 VDD (power), 71 VSS (power), 72 VDD (power), 81 VCAP1 (power), 82 VDD (power), 90 VSS (power), 91 VDD (power), 102 VSS (power), 103 VDD (power), 113 VSS (power), 114 VDD33USB (power), 125 VCAP2 (power), 126 VSS (power), 127 VDD (power), 131 PI0 (io), 132 PI1 (io), 133 PI2 (io), 134 PI3 (io), 135 VSS (power), 136 VDD (power), 148 VSS (power), 149 VDD (power), 158 VSS (power), 159 VDD (power), 166 BOOT0 (in), 171 PDR_ON, 172 VDD (power), 173 PI4 (io), 174 PI5 (io), 175 PI6 (io), 176 PI7 (io)